# Altium integrated library HyTechDevices.Library.IntLib: 384 symbols (part 2 of 4)
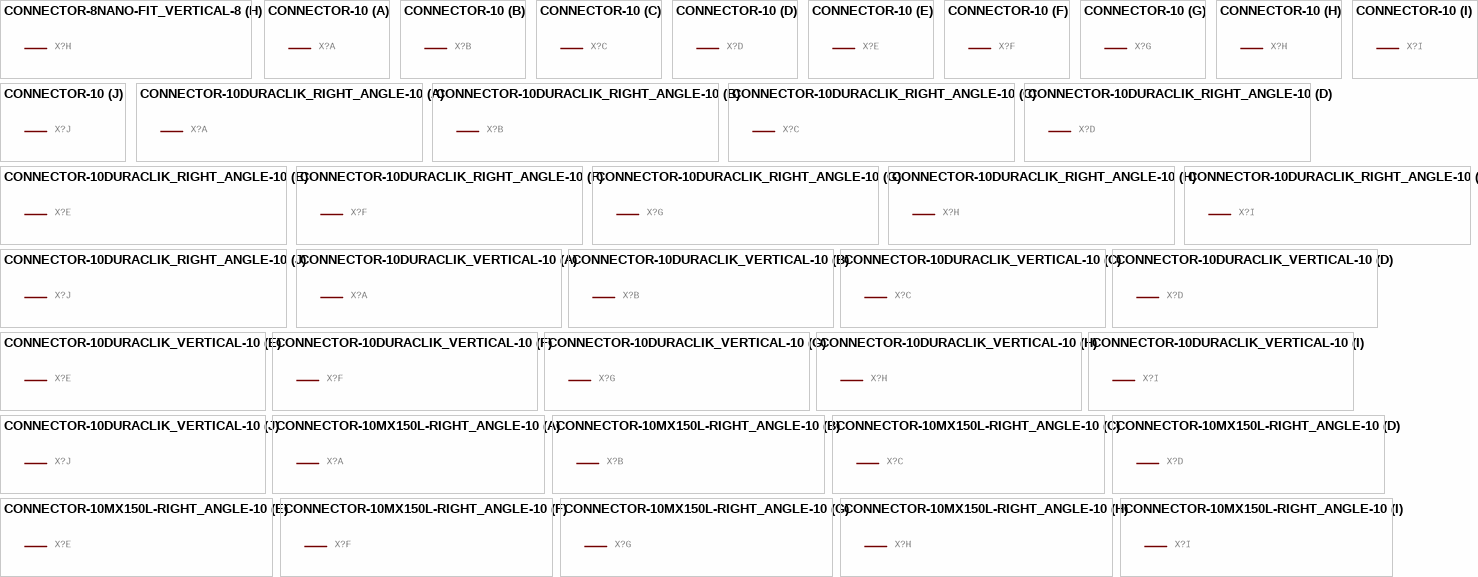
[diagram p22: symbols CONNECTOR-8NANO-FIT_VERTICAL-8 to CONNECTOR-10MX150L-RIGHT_ANGLE-10]

## CONNECTOR-8NANO-FIT_VERTICAL-8
designator X?, comment Mini-Fit Junior connector 8 pole   Source: http://www.molex.com  (value not drawn)
GateName_1: -1; SymbolName_1: MV; GateName_2: -2; SymbolName_2: M; GateName_3: -3; GateName_4: -4; GateName_5: -5; GateName_6: -6; GateName_7: -7; GateName_8: -8; DeviceName: NANO-FIT_VERTICAL-8; DeviceSetName: CONNECTOR-8; SymbolName_3: M; SymbolName_4: M; SymbolName_5: M; SymbolName_6: M; SymbolName_7: M; SymbolName_8: M; LibraryName: HyTechDevices; Package: NANO-FIT_VERTICAL-8
footprint NANO-FIT_VERTICAL-8
part A pins: P$1 S
part B pins: P$2 S
part C pins: P$3 S
part D pins: P$4 S
part E pins: P$5 S
part F pins: P$6 S
part G pins: P$7 S
part H pins: P$8 S

## CONNECTOR-10
designator X?, comment Mini-Fit Junior connector 10 pole   Source: http://www.molex.com  (value not drawn)
GateName_1: -1; SymbolName_1: MV; GateName_2: -2; SymbolName_2: M; GateName_3: -3; GateName_4: -4; GateName_5: -5; GateName_6: -6; GateName_7: -7; GateName_8: -8; GateName_9: -9; GateName_10: -10; DeviceSetName: CONNECTOR-10; SymbolName_3: M; SymbolName_4: M; SymbolName_5: M; SymbolName_6: M; SymbolName_7: M; SymbolName_8: M; SymbolName_9: M; SymbolName_10: M; LibraryName: HyTechDevices; Package: MINIFIT_5566-10; OC_FARNELL: unknown; OC_NEWARK: unknown
footprint MINIFIT_5566-10
part A pins: 1 S
part B pins: 2 S
part C pins: 3 S
part D pins: 4 S
part E pins: 5 S
part F pins: 6 S
part G pins: 7 S
part H pins: 8 S
part I pins: 9 S
part J pins: 10 S

## CONNECTOR-10DURACLIK_RIGHT_ANGLE-10
designator X?, comment Mini-Fit Junior connector 10 pole   Source: http://www.molex.com  (value not drawn)
GateName_1: -1; SymbolName_1: MV; GateName_2: -2; SymbolName_2: M; GateName_3: -3; GateName_4: -4; GateName_5: -5; GateName_6: -6; GateName_7: -7; GateName_8: -8; GateName_9: -9; GateName_10: -10; DeviceName: DURACLIK_RIGHT_ANGLE-10; DeviceSetName: CONNECTOR-10; SymbolName_3: M; SymbolName_4: M; SymbolName_5: M; SymbolName_6: M; SymbolName_7: M; SymbolName_8: M; SymbolName_9: M; SymbolName_10: M; LibraryName: HyTechDevices; Package: DURACLIK_RIGHT_ANGLE-10
footprint DURACLIK_RIGHT_ANGLE-10
part A pins: 1 S
part B pins: 2 S
part C pins: 3 S
part D pins: 4 S
part E pins: 5 S
part F pins: 6 S
part G pins: 7 S
part H pins: 8 S
part I pins: 9 S
part J pins: 10 S

## CONNECTOR-10DURACLIK_VERTICAL-10
designator X?, comment Mini-Fit Junior connector 10 pole   Source: http://www.molex.com  (value not drawn)
GateName_1: -1; SymbolName_1: MV; GateName_2: -2; SymbolName_2: M; GateName_3: -3; GateName_4: -4; GateName_5: -5; GateName_6: -6; GateName_7: -7; GateName_8: -8; GateName_9: -9; GateName_10: -10; DeviceName: DURACLIK_VERTICAL-10; DeviceSetName: CONNECTOR-10; SymbolName_3: M; SymbolName_4: M; SymbolName_5: M; SymbolName_6: M; SymbolName_7: M; SymbolName_8: M; SymbolName_9: M; SymbolName_10: M; LibraryName: HyTechDevices; Package: DURACLIK_VERTICAL-10
footprint DURACLIK_VERTICAL-10
part A pins: 1 S
part B pins: 2 S
part C pins: 3 S
part D pins: 4 S
part E pins: 5 S
part F pins: 6 S
part G pins: 7 S
part H pins: 8 S
part I pins: 9 S
part J pins: 10 S

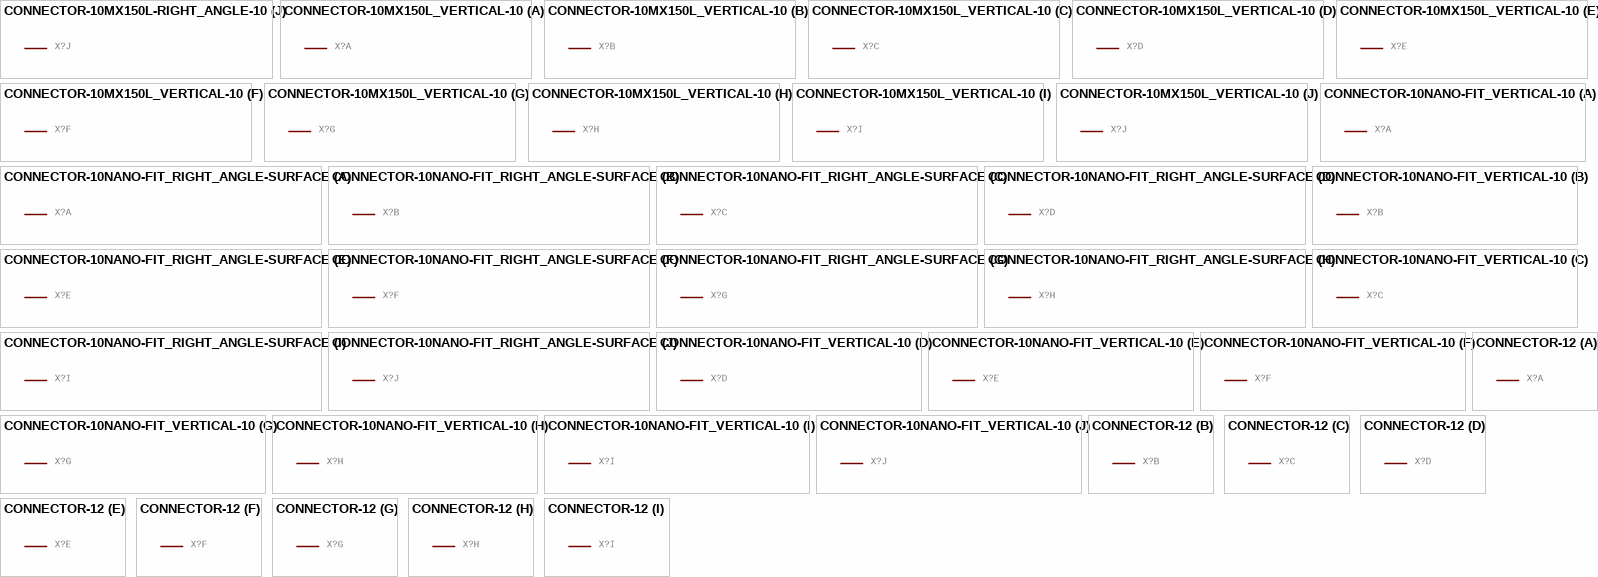
[diagram p9: symbols CONNECTOR-10MX150L-RIGHT_ANGLE-10 to CONNECTOR-12]

## CONNECTOR-10MX150L-RIGHT_ANGLE-10
designator X?, comment Mini-Fit Junior connector 10 pole   Source: http://www.molex.com  (value not drawn)
GateName_1: -1; SymbolName_1: MV; GateName_2: -2; SymbolName_2: M; GateName_3: -3; GateName_4: -4; GateName_5: -5; GateName_6: -6; GateName_7: -7; GateName_8: -8; GateName_9: -9; GateName_10: -10; DeviceName: MX150L-RIGHT_ANGLE-10; DeviceSetName: CONNECTOR-10; SymbolName_3: M; SymbolName_4: M; SymbolName_5: M; SymbolName_6: M; SymbolName_7: M; SymbolName_8: M; SymbolName_9: M; SymbolName_10: M; LibraryName: HyTechDevices; Package: MX150L_RIGHT_ANGLE-10
footprint MX150L_RIGHT_ANGLE-10
part A pins: 1 S
part B pins: 2 S
part C pins: 3 S
part D pins: 4 S
part E pins: 5 S
part F pins: 6 S
part G pins: 7 S
part H pins: 8 S
part I pins: 9 S
part J pins: 10 S

## CONNECTOR-10MX150L_VERTICAL-10
designator X?, comment Mini-Fit Junior connector 10 pole   Source: http://www.molex.com  (value not drawn)
GateName_1: -1; SymbolName_1: MV; GateName_2: -2; SymbolName_2: M; GateName_3: -3; GateName_4: -4; GateName_5: -5; GateName_6: -6; GateName_7: -7; GateName_8: -8; GateName_9: -9; GateName_10: -10; DeviceName: MX150L_VERTICAL-10; DeviceSetName: CONNECTOR-10; SymbolName_3: M; SymbolName_4: M; SymbolName_5: M; SymbolName_6: M; SymbolName_7: M; SymbolName_8: M; SymbolName_9: M; SymbolName_10: M; LibraryName: HyTechDevices; Package: MX150L_VERTICAL-10
footprint MX150L_VERTICAL-10
part A pins: 1 S
part B pins: 2 S
part C pins: 3 S
part D pins: 4 S
part E pins: 5 S
part F pins: 6 S
part G pins: 7 S
part H pins: 8 S
part I pins: 9 S
part J pins: 10 S

## CONNECTOR-10NANO-FIT_RIGHT_ANGLE-SURFACE
designator X?, comment Mini-Fit Junior connector 10 pole   Source: http://www.molex.com  (value not drawn)
GateName_1: -1; SymbolName_1: MV; GateName_2: -2; SymbolName_2: M; GateName_3: -3; GateName_4: -4; GateName_5: -5; GateName_6: -6; GateName_7: -7; GateName_8: -8; GateName_9: -9; GateName_10: -10; DeviceName: NANO-FIT_RIGHT_ANGLE-SURFACE; DeviceSetName: CONNECTOR-10; SymbolName_3: M; SymbolName_4: M; SymbolName_5: M; SymbolName_6: M; SymbolName_7: M; SymbolName_8: M; SymbolName_9: M; SymbolName_10: M; LibraryName: HyTechDevices; Package: NANO-FIT_RIGHT_ANGLE-10-SURFACE
footprint NANO-FIT_RIGHT_ANGLE-10-SURFACE
part A pins: 1 S
part B pins: 2 S
part C pins: 3 S
part D pins: 4 S
part E pins: 5 S
part F pins: 6 S
part G pins: 7 S
part H pins: 8 S
part I pins: 9 S
part J pins: 10 S

## CONNECTOR-10NANO-FIT_VERTICAL-10
designator X?, comment Mini-Fit Junior connector 10 pole   Source: http://www.molex.com  (value not drawn)
GateName_1: -1; SymbolName_1: MV; GateName_2: -2; SymbolName_2: M; GateName_3: -3; GateName_4: -4; GateName_5: -5; GateName_6: -6; GateName_7: -7; GateName_8: -8; GateName_9: -9; GateName_10: -10; DeviceName: NANO-FIT_VERTICAL-10; DeviceSetName: CONNECTOR-10; SymbolName_3: M; SymbolName_4: M; SymbolName_5: M; SymbolName_6: M; SymbolName_7: M; SymbolName_8: M; SymbolName_9: M; SymbolName_10: M; LibraryName: HyTechDevices; Package: NANO-FIT_VERTICAL-10
footprint NANO-FIT_VERTICAL-10
part A pins: P$1 S
part B pins: P$2 S
part C pins: P$3 S
part D pins: P$4 S
part E pins: P$5 S
part F pins: P$6 S
part G pins: P$7 S
part H pins: P$8 S
part I pins: P$9 S
part J pins: P$10 S

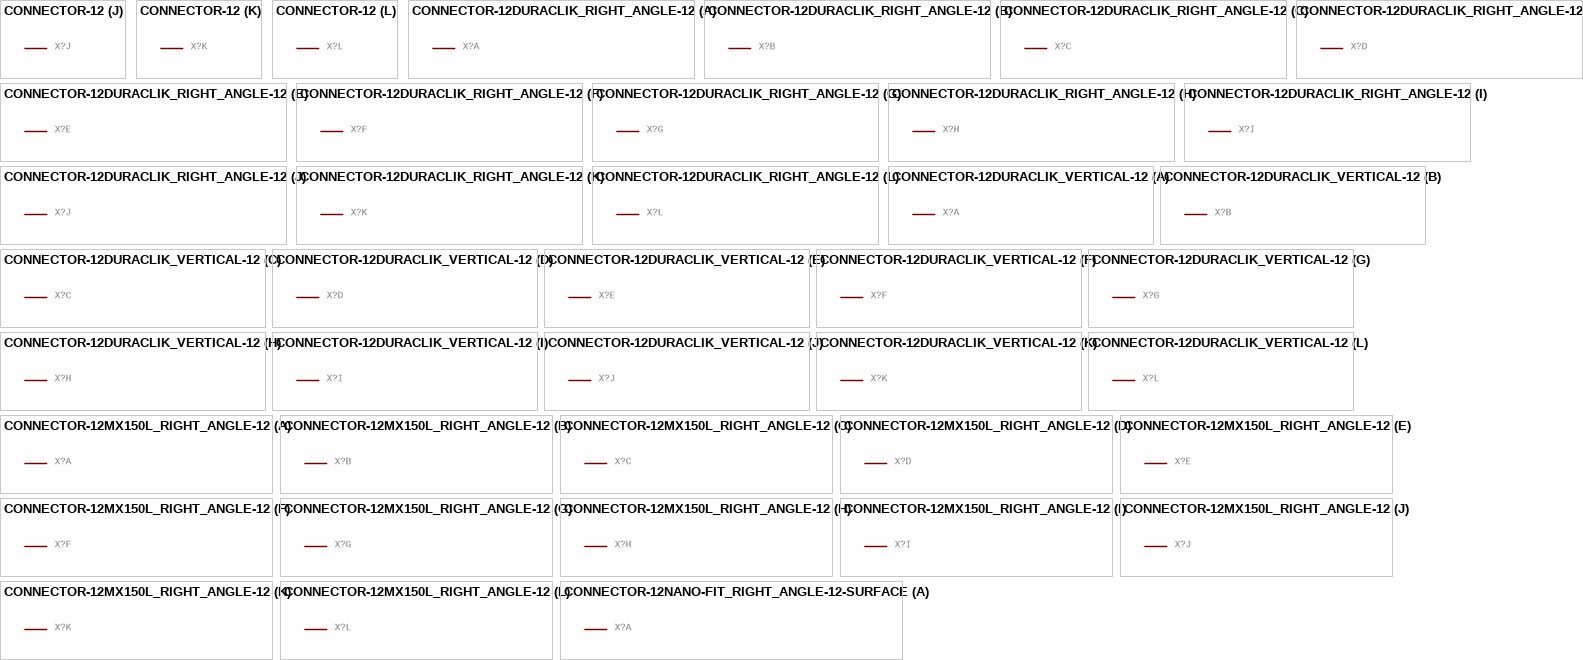
[diagram p10: symbols CONNECTOR-12 to CONNECTOR-12NANO-FIT_RIGHT_ANGLE-12-SURFACE]

## CONNECTOR-12
designator X?, comment Mini-Fit Junior connector 12 pole   Source: http://www.molex.com  (value not drawn)
GateName_1: -1; SymbolName_1: MV; GateName_2: -2; SymbolName_2: M; GateName_3: -3; GateName_4: -4; GateName_5: -5; GateName_6: -6; GateName_7: -7; GateName_8: -8; GateName_9: -9; GateName_10: -10; GateName_11: -11; GateName_12: -12; DeviceSetName: CONNECTOR-12; SymbolName_3: M; SymbolName_4: M; SymbolName_5: M; SymbolName_6: M; SymbolName_7: M; SymbolName_8: M; SymbolName_9: M; SymbolName_10: M; SymbolName_11: M; SymbolName_12: M; LibraryName: HyTechDevices; Package: MINIFIT_5566-12; OC_FARNELL: unknown; OC_NEWARK: unknown
footprint MINIFIT_5566-12
part A pins: 1 S
part B pins: 2 S
part C pins: 3 S
part D pins: 4 S
part E pins: 5 S
part F pins: 6 S
part G pins: 7 S
part H pins: 8 S
part I pins: 9 S
part J pins: 10 S
part K pins: 11 S
part L pins: 12 S

## CONNECTOR-12DURACLIK_RIGHT_ANGLE-12
designator X?, comment Mini-Fit Junior connector 12 pole   Source: http://www.molex.com  (value not drawn)
GateName_1: -1; SymbolName_1: MV; GateName_2: -2; SymbolName_2: M; GateName_3: -3; GateName_4: -4; GateName_5: -5; GateName_6: -6; GateName_7: -7; GateName_8: -8; GateName_9: -9; GateName_10: -10; GateName_11: -11; GateName_12: -12; DeviceName: DURACLIK_RIGHT_ANGLE-12; DeviceSetName: CONNECTOR-12; SymbolName_3: M; SymbolName_4: M; SymbolName_5: M; SymbolName_6: M; SymbolName_7: M; SymbolName_8: M; SymbolName_9: M; SymbolName_10: M; SymbolName_11: M; SymbolName_12: M; LibraryName: HyTechDevices; Package: DURACLIK_RIGHT_ANGLE-12
footprint DURACLIK_RIGHT_ANGLE-12
part A pins: 1 S
part B pins: 2 S
part C pins: 3 S
part D pins: 4 S
part E pins: 5 S
part F pins: 6 S
part G pins: 7 S
part H pins: 8 S
part I pins: 9 S
part J pins: 10 S
part K pins: 11 S
part L pins: 12 S

## CONNECTOR-12DURACLIK_VERTICAL-12
designator X?, comment Mini-Fit Junior connector 12 pole   Source: http://www.molex.com  (value not drawn)
GateName_1: -1; SymbolName_1: MV; GateName_2: -2; SymbolName_2: M; GateName_3: -3; GateName_4: -4; GateName_5: -5; GateName_6: -6; GateName_7: -7; GateName_8: -8; GateName_9: -9; GateName_10: -10; GateName_11: -11; GateName_12: -12; DeviceName: DURACLIK_VERTICAL-12; DeviceSetName: CONNECTOR-12; SymbolName_3: M; SymbolName_4: M; SymbolName_5: M; SymbolName_6: M; SymbolName_7: M; SymbolName_8: M; SymbolName_9: M; SymbolName_10: M; SymbolName_11: M; SymbolName_12: M; LibraryName: HyTechDevices; Package: DURACLIK_VERTICAL-12
footprint DURACLIK_VERTICAL-12
part A pins: 1 S
part B pins: 2 S
part C pins: 3 S
part D pins: 4 S
part E pins: 5 S
part F pins: 6 S
part G pins: 7 S
part H pins: 8 S
part I pins: 9 S
part J pins: 10 S
part K pins: 11 S
part L pins: 12 S

## CONNECTOR-12MX150L_RIGHT_ANGLE-12
designator X?, comment Mini-Fit Junior connector 12 pole   Source: http://www.molex.com  (value not drawn)
GateName_1: -1; SymbolName_1: MV; GateName_2: -2; SymbolName_2: M; GateName_3: -3; GateName_4: -4; GateName_5: -5; GateName_6: -6; GateName_7: -7; GateName_8: -8; GateName_9: -9; GateName_10: -10; GateName_11: -11; GateName_12: -12; DeviceName: MX150L_RIGHT_ANGLE-12; DeviceSetName: CONNECTOR-12; SymbolName_3: M; SymbolName_4: M; SymbolName_5: M; SymbolName_6: M; SymbolName_7: M; SymbolName_8: M; SymbolName_9: M; SymbolName_10: M; SymbolName_11: M; SymbolName_12: M; LibraryName: HyTechDevices; Package: MX150L_RIGHT_ANGLE-12
footprint MX150L_RIGHT_ANGLE-12
part A pins: 1 S
part B pins: 2 S
part C pins: 3 S
part D pins: 4 S
part E pins: 5 S
part F pins: 6 S
part G pins: 7 S
part H pins: 8 S
part I pins: 9 S
part J pins: 10 S
part K pins: 11 S
part L pins: 12 S

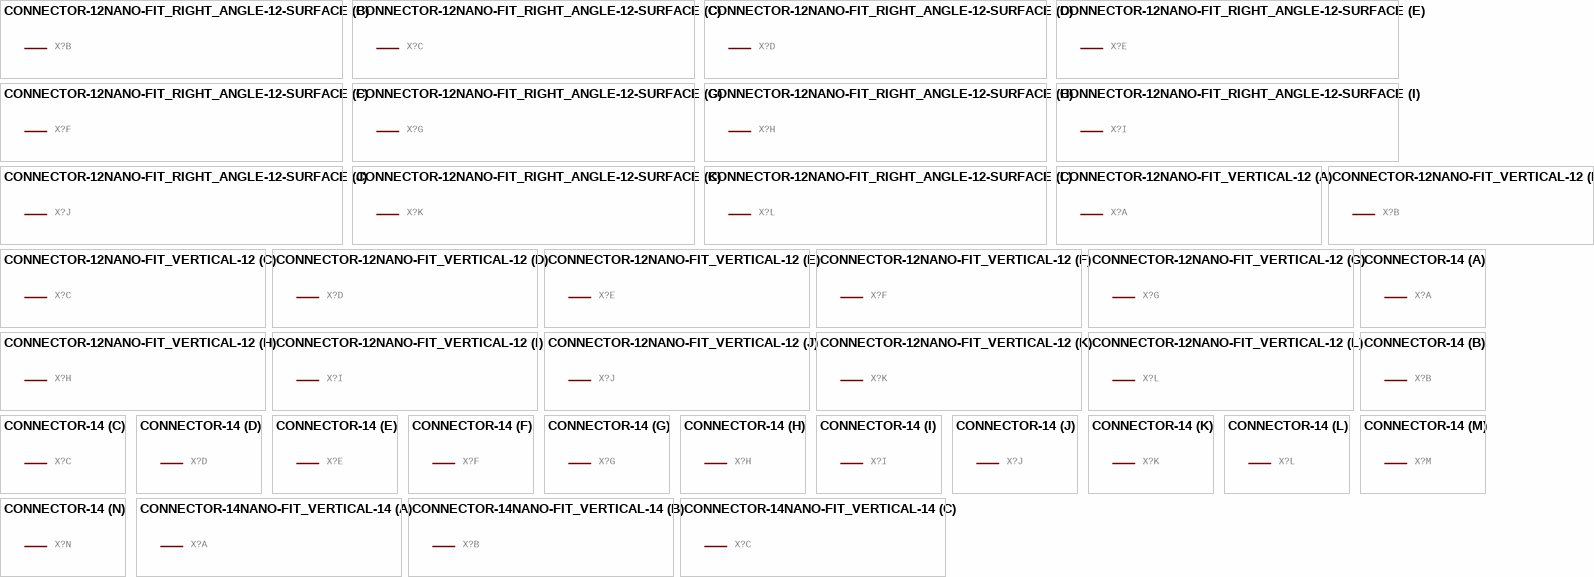
[diagram p11: symbols CONNECTOR-12NANO-FIT_RIGHT_ANGLE-12-SURFACE to CONNECTOR-14NANO-FIT_VERTICAL-14]

## CONNECTOR-12NANO-FIT_RIGHT_ANGLE-12-SURFACE
designator X?, comment Mini-Fit Junior connector 12 pole   Source: http://www.molex.com  (value not drawn)
GateName_1: -1; SymbolName_1: MV; GateName_2: -2; SymbolName_2: M; GateName_3: -3; GateName_4: -4; GateName_5: -5; GateName_6: -6; GateName_7: -7; GateName_8: -8; GateName_9: -9; GateName_10: -10; GateName_11: -11; GateName_12: -12; DeviceName: NANO-FIT_RIGHT_ANGLE-12-SURFACE; DeviceSetName: CONNECTOR-12; SymbolName_3: M; SymbolName_4: M; SymbolName_5: M; SymbolName_6: M; SymbolName_7: M; SymbolName_8: M; SymbolName_9: M; SymbolName_10: M; SymbolName_11: M; SymbolName_12: M; LibraryName: HyTechDevices; Package: NANO-FIT_RIGHT_ANGLE-12-SURFACE
footprint NANO-FIT_RIGHT_ANGLE-12-SURFACE
part A pins: 1 S
part B pins: 2 S
part C pins: 3 S
part D pins: 4 S
part E pins: 5 S
part F pins: 6 S
part G pins: 7 S
part H pins: 8 S
part I pins: 9 S
part J pins: 10 S
part K pins: 11 S
part L pins: 12 S

## CONNECTOR-12NANO-FIT_VERTICAL-12
designator X?, comment Mini-Fit Junior connector 12 pole   Source: http://www.molex.com  (value not drawn)
GateName_1: -1; SymbolName_1: MV; GateName_2: -2; SymbolName_2: M; GateName_3: -3; GateName_4: -4; GateName_5: -5; GateName_6: -6; GateName_7: -7; GateName_8: -8; GateName_9: -9; GateName_10: -10; GateName_11: -11; GateName_12: -12; DeviceName: NANO-FIT_VERTICAL-12; DeviceSetName: CONNECTOR-12; SymbolName_3: M; SymbolName_4: M; SymbolName_5: M; SymbolName_6: M; SymbolName_7: M; SymbolName_8: M; SymbolName_9: M; SymbolName_10: M; SymbolName_11: M; SymbolName_12: M; LibraryName: HyTechDevices; Package: NANO-FIT_VERTICAL-12
footprint NANO-FIT_VERTICAL-12
part A pins: P$1 S
part B pins: P$2 S
part C pins: P$3 S
part D pins: P$4 S
part E pins: P$5 S
part F pins: P$6 S
part G pins: P$7 S
part H pins: P$8 S
part I pins: P$9 S
part J pins: P$10 S
part K pins: P$11 S
part L pins: P$12 S

## CONNECTOR-14
designator X?, comment Mini-Fit Junior connector 14 pole   Source: http://www.molex.com  (value not drawn)
GateName_1: -1; SymbolName_1: MV; GateName_2: -2; SymbolName_2: M; GateName_3: -3; GateName_4: -4; GateName_5: -5; GateName_6: -6; GateName_7: -7; GateName_8: -8; GateName_9: -9; GateName_10: -10; GateName_11: -11; GateName_12: -12; GateName_13: -13; GateName_14: -14; DeviceSetName: CONNECTOR-14; SymbolName_3: M; SymbolName_4: M; SymbolName_5: M; SymbolName_6: M; SymbolName_7: M; SymbolName_8: M; SymbolName_9: M; SymbolName_10: M; SymbolName_11: M; SymbolName_12: M; SymbolName_13: M; SymbolName_14: M; LibraryName: HyTechDevices; Package: MINIFIT_5566-14
footprint MINIFIT_5566-14
part A pins: 1 S
part B pins: 2 S
part C pins: 3 S
part D pins: 4 S
part E pins: 5 S
part F pins: 6 S
part G pins: 7 S
part H pins: 8 S
part I pins: 9 S
part J pins: 10 S
part K pins: 11 S
part L pins: 12 S
part M pins: 13 S
part N pins: 14 S

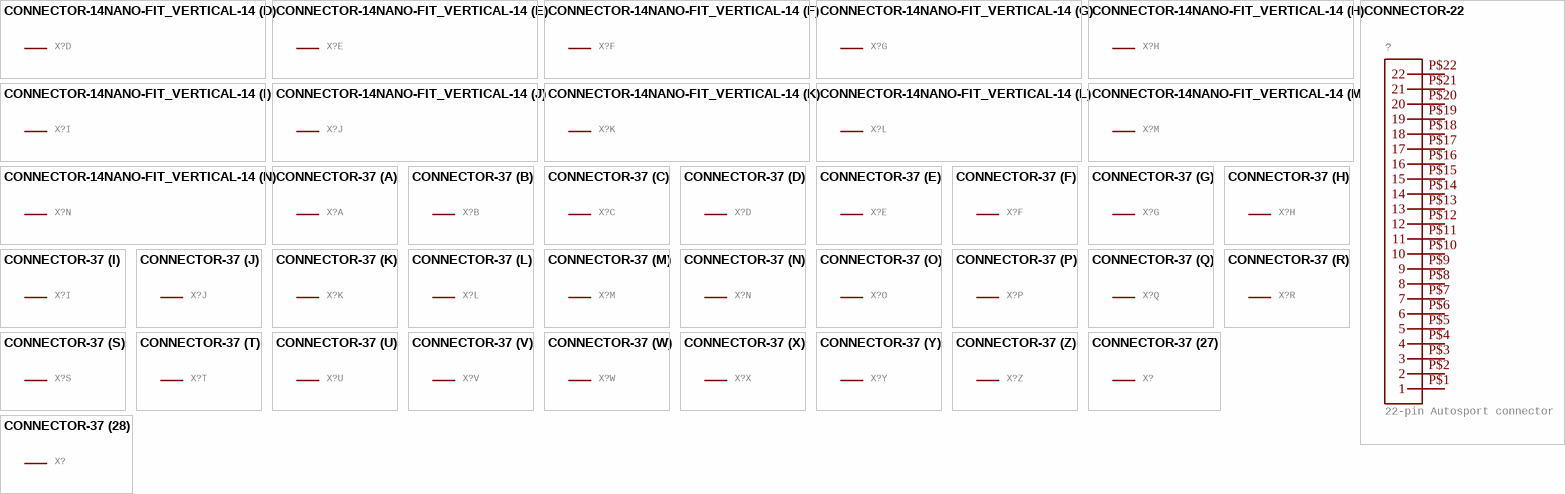
[diagram p12: symbols CONNECTOR-14NANO-FIT_VERTICAL-14 to CONNECTOR-37]

## CONNECTOR-14NANO-FIT_VERTICAL-14
designator X?, comment Mini-Fit Junior connector 14 pole   Source: http://www.molex.com  (value not drawn)
GateName_1: -1; SymbolName_1: MV; GateName_2: -2; SymbolName_2: M; GateName_3: -3; GateName_4: -4; GateName_5: -5; GateName_6: -6; GateName_7: -7; GateName_8: -8; GateName_9: -9; GateName_10: -10; GateName_11: -11; GateName_12: -12; GateName_13: -13; GateName_14: -14; DeviceName: NANO-FIT_VERTICAL-14; DeviceSetName: CONNECTOR-14; SymbolName_3: M; SymbolName_4: M; SymbolName_5: M; SymbolName_6: M; SymbolName_7: M; SymbolName_8: M; SymbolName_9: M; SymbolName_10: M; SymbolName_11: M; SymbolName_12: M; SymbolName_13: M; SymbolName_14: M; LibraryName: HyTechDevices; Package: NANO-FIT_VERTICAL-14
footprint NANO-FIT_VERTICAL-14
part A pins: P$1 S
part B pins: P$2 S
part C pins: P$3 S
part D pins: P$4 S
part E pins: P$5 S
part F pins: P$6 S
part G pins: P$7 S
part H pins: P$8 S
part I pins: P$9 S
part J pins: P$10 S
part K pins: P$11 S
part L pins: P$12 S
part M pins: P$13 S
part N pins: P$14 S

## CONNECTOR-22
designator ?, comment 22-pin Autosport connector
GateName_1: G$1; SymbolName_1: AUTOSPORT22; DeviceSetName: CONNECTOR-22; LibraryName: HyTechDevices; Package: AUTOSPORT_12-35; PINS: 22
footprint AUTOSPORT_12-35
pins: P$1 1, P$2 2, P$3 3, P$4 4, P$5 5, P$6 6, P$7 7, P$8 8, P$9 9, P$10 10, P$11 11, P$12 12, P$13 13, P$14 14, P$15 15, P$16 16, P$17 17, P$18 18, P$19 19, P$20 20, P$21 21, P$22 22

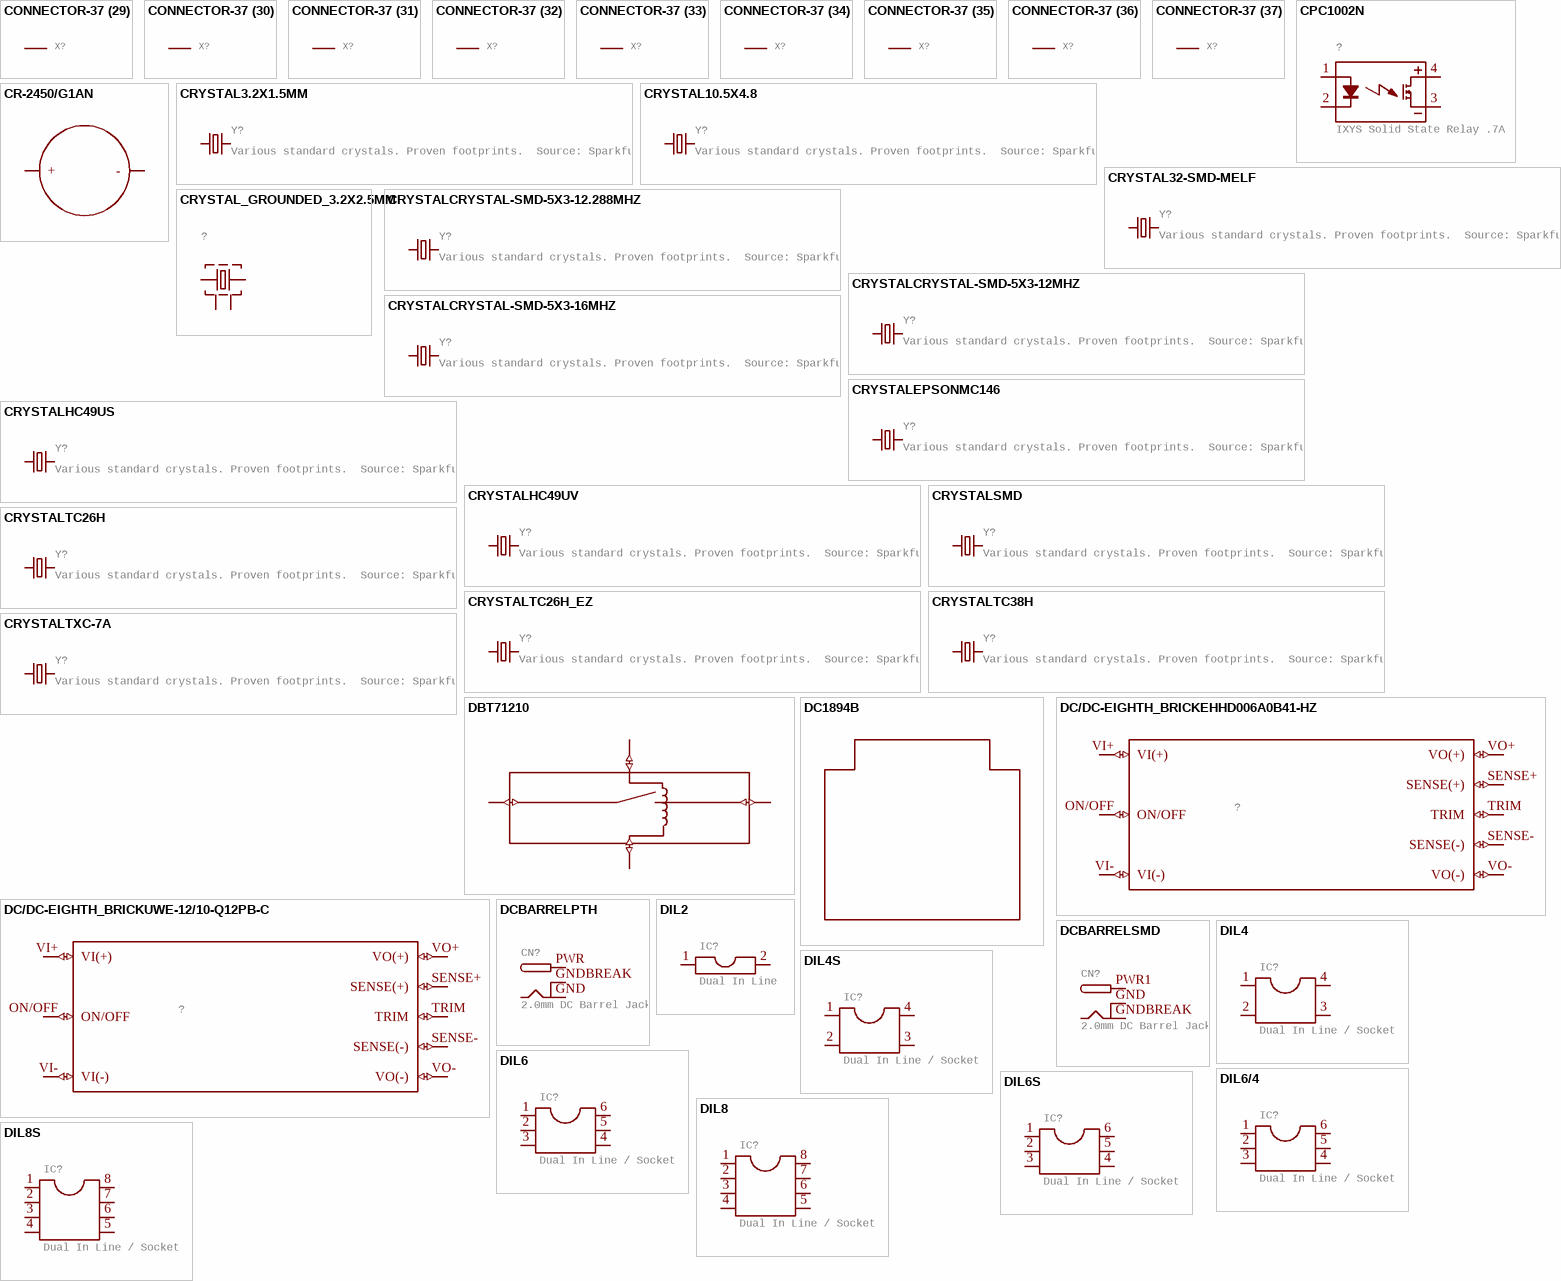
[diagram p13: symbols CONNECTOR-37 to DIL8S]

## CONNECTOR-37
designator X?, comment Mini-Fit Junior connector 12 pole   Source: http://www.molex.com  (value not drawn)
GateName_1: -1; SymbolName_1: MV; GateName_2: -2; SymbolName_2: M; GateName_3: -3; GateName_4: -4; GateName_5: -5; GateName_6: -6; GateName_7: -7; GateName_8: -8; GateName_9: -9; GateName_10: -10; GateName_11: -11; GateName_12: -12; GateName_13: -13; GateName_14: -14; GateName_15: -15; GateName_16: -16; GateName_17: -17; GateName_18: -18; GateName_19: -19; GateName_20: -20; GateName_21: -21; GateName_22: -22; GateName_23: -23; GateName_24: -24; GateName_25: -25; GateName_26: -26; GateName_27: -27; GateName_28: -28; GateName_29: -29; GateName_30: -30; GateName_31: -31; GateName_32: -32; GateName_33: -33; GateName_34: -34; GateName_35: -35; GateName_36: -36; GateName_37: -37; DeviceSetName: CONNECTOR-37; SymbolName_3: M; SymbolName_4: M; SymbolName_5: M; SymbolName_6: M; SymbolName_7: M; SymbolName_8: M; SymbolName_9: M; SymbolName_10: M; SymbolName_11: M; SymbolName_12: M; SymbolName_13: M; SymbolName_14: M; SymbolName_15: M; SymbolName_16: M; SymbolName_17: M; SymbolName_18: M; SymbolName_19: M; SymbolName_20: M; SymbolName_21: M; SymbolName_22: M; SymbolName_23: M; SymbolName_24: M; SymbolName_25: M; SymbolName_26: M; SymbolName_27: M; SymbolName_28: M; SymbolName_29: M; SymbolName_30: M; SymbolName_31: M; SymbolName_32: M; SymbolName_33: M; SymbolName_34: M; SymbolName_35: M; SymbolName_36: M; SymbolName_37: M; LibraryName: HyTechDevices; Package: AUTOSPORT_14-35
footprint AUTOSPORT_14-35
part A pins: P$1 S
part B pins: P$2 S
part C pins: P$3 S
part D pins: P$4 S
part E pins: P$5 S
part F pins: P$6 S
part G pins: P$7 S
part H pins: P$8 S
part I pins: P$9 S
part J pins: P$10 S
part K pins: P$11 S
part L pins: P$12 S
part M pins: P$13 S
part N pins: P$14 S
part O pins: P$15 S
part P pins: P$16 S
part Q pins: P$17 S
part R pins: P$18 S
part S pins: P$19 S
part T pins: P$20 S
part U pins: P$21 S
part V pins: P$22 S
part W pins: P$23 S
part X pins: P$24 S
part Y pins: P$25 S
part Z pins: P$26 S
part 27 pins: P$27 S
part 28 pins: P$28 S
part 29 pins: P$29 S
part 30 pins: P$30 S
part 31 pins: P$31 S
part 32 pins: P$32 S
part 33 pins: P$33 S
part 34 pins: P$34 S
part 35 pins: P$35 S
part 36 pins: P$36 S
part 37 pins: P$37 S

## CPC1002N
designator ?, comment IXYS Solid State Relay .7A
GateName_1: G$1; SymbolName_1: CPC1002N; LibraryName: HyTechDevices; DeviceSetName: CPC1002N; Package: SOP04
footprint SOP04
pins: 1 CONTROL+, 2 CONTROL-, 3 DC-, 4 DC+

## CR-2450/G1AN
designator ?, comment Panasonic CR2450 Battery through hole.  (value not drawn)
GateName_1: G$1; SymbolName_1: CR-2450/G1AN; LibraryName: HyTechDevices; DeviceSetName: CR-2450/G1AN; Package: CR-2450/G1AN
footprint CR-2450/G1AN
pins: +_0 +_1 + (io), - (io)

## CRYSTAL3.2X1.5MM
designator Y?, comment Various standard crystals. Proven footprints.  Source: Sparkfun
GateName_1: G$1; SymbolName_1: Q; DeviceName: 3.2X1.5MM; PROD_ID: XTAL-13062; LibraryName: HyTechDevices; DeviceSetName: CRYSTAL; Package: CRYSTAL-SMD-3.2X1.5MM
footprint CRYSTAL-SMD-3.2X1.5MM
pins: P$1 1, P$2 2

## CRYSTAL10.5X4.8
designator Y?, comment Various standard crystals. Proven footprints.  Source: Sparkfun
GateName_1: G$1; SymbolName_1: Q; DeviceName: 10.5X4.8; LibraryName: HyTechDevices; DeviceSetName: CRYSTAL; Package: CRYSTAL-SMD-10.5X4.8-2PIN
footprint CRYSTAL-SMD-10.5X4.8-2PIN
pins: P$1 1, P$2 2

## CRYSTAL32-SMD-MELF
designator Y?, comment Various standard crystals. Proven footprints.  Source: Sparkfun
GateName_1: G$1; SymbolName_1: Q; DeviceName: 32-SMD-MELF; PROD_ID: XTAL-07894; LibraryName: HyTechDevices; DeviceSetName: CRYSTAL; Package: CRYSTAL-32KHZ-SMD-MELF
footprint CRYSTAL-32KHZ-SMD-MELF
pins: X1 1, X2 2

## CRYSTAL_GROUNDED_3.2X2.5MM
designator ?
GateName_1: G$1; SymbolName_1: Q-SHIELD2; DeviceName: _3.2X2.5MM; DeviceSetName: CRYSTAL_GROUNDED; LibraryName: HyTechDevices; Package: CRYSTAL_3.2X2.5MM
footprint CRYSTAL_3.2X2.5MM
pins: P$1 1, P$2 2, P$3 3, P$4 4

## CRYSTALCRYSTAL-SMD-5X3-12.288MHZ
designator Y?, comment Various standard crystals. Proven footprints.  Source: Sparkfun
GateName_1: G$1; SymbolName_1: Q; DeviceName: CRYSTAL-SMD-5X3-12.288MHZ; PROD_ID: XTAL-09653; LibraryName: HyTechDevices; DeviceSetName: CRYSTAL; Package: CRYSTAL-SMD-5X3
footprint CRYSTAL-SMD-5X3
pins: 1, 3 2

## CRYSTALCRYSTAL-SMD-5X3-12MHZ
designator Y?, comment Various standard crystals. Proven footprints.  Source: Sparkfun
GateName_1: G$1; SymbolName_1: Q; DeviceName: CRYSTAL-SMD-5X3-12MHZ; PROD_ID: XTAL-08297; LibraryName: HyTechDevices; DeviceSetName: CRYSTAL; Package: CRYSTAL-SMD-5X3
footprint CRYSTAL-SMD-5X3
pins: 1, 3 2

## CRYSTALCRYSTAL-SMD-5X3-16MHZ
designator Y?, comment Various standard crystals. Proven footprints.  Source: Sparkfun
GateName_1: G$1; SymbolName_1: Q; DeviceName: CRYSTAL-SMD-5X3-16MHZ; PROD_ID: XTAL-08218; LibraryName: HyTechDevices; DeviceSetName: CRYSTAL; Package: CRYSTAL-SMD-5X3
footprint CRYSTAL-SMD-5X3
pins: 1, 3 2

## CRYSTALEPSONMC146
designator Y?, comment Various standard crystals. Proven footprints.  Source: Sparkfun
GateName_1: G$1; SymbolName_1: Q; DeviceName: EPSONMC146; LibraryName: HyTechDevices; DeviceSetName: CRYSTAL; Package: CRYSTAL-32KHZ-SMD_EPSON_MC146
footprint CRYSTAL-32KHZ-SMD_EPSON_MC146
pins: P$1 2, P$2 1

## CRYSTALHC49US
designator Y?, comment Various standard crystals. Proven footprints.  Source: Sparkfun
GateName_1: G$1; SymbolName_1: Q; DeviceName: HC49US; LibraryName: HyTechDevices; DeviceSetName: CRYSTAL; Package: HC49US
footprint HC49US
pins: 1, 2

## CRYSTALHC49UV
designator Y?, comment Various standard crystals. Proven footprints.  Source: Sparkfun
GateName_1: G$1; SymbolName_1: Q; DeviceName: HC49UV; LibraryName: HyTechDevices; DeviceSetName: CRYSTAL; Package: HC49U-V
footprint HC49U-V
pins: 1, 2

## CRYSTALSMD
designator Y?, comment Various standard crystals. Proven footprints.  Source: Sparkfun
GateName_1: G$1; SymbolName_1: Q; DeviceName: SMD; LibraryName: HyTechDevices; DeviceSetName: CRYSTAL; Package: HC49UP
footprint HC49UP
pins: 1, 2

## CRYSTALTC26H
designator Y?, comment Various standard crystals. Proven footprints.  Source: Sparkfun
GateName_1: G$1; SymbolName_1: Q; DeviceName: TC26H; PROD_ID: XTAL-10112; LibraryName: HyTechDevices; DeviceSetName: CRYSTAL; Package: TC26H
footprint TC26H
pins: 1, 2

## CRYSTALTC26H_EZ
designator Y?, comment Various standard crystals. Proven footprints.  Source: Sparkfun
GateName_1: G$1; SymbolName_1: Q; DeviceName: TC26H_EZ; LibraryName: HyTechDevices; DeviceSetName: CRYSTAL; Package: TC26HEZ
footprint TC26HEZ
pins: 1, 2

## CRYSTALTC38H
designator Y?, comment Various standard crystals. Proven footprints.  Source: Sparkfun
GateName_1: G$1; SymbolName_1: Q; DeviceName: TC38H; LibraryName: HyTechDevices; DeviceSetName: CRYSTAL; Package: TC38H
footprint TC38H
pins: 1, 2

## CRYSTALTXC-7A
designator Y?, comment Various standard crystals. Proven footprints.  Source: Sparkfun
GateName_1: G$1; SymbolName_1: Q; DeviceName: TXC-7A; LibraryName: HyTechDevices; DeviceSetName: CRYSTAL; Package: CRYSTAL-TXC-7A
footprint CRYSTAL-TXC-7A
pins: P$1 1, P$2 2

## DBT71210
designator ?, comment DBT71210 Reed Relay Form B (Standard normally closed), switch 12V  (value not drawn)
GateName_1: G$1; SymbolName_1: DBT71210; LibraryName: HyTechDevices; DeviceSetName: DBT71210; Package: DBT71210
footprint DBT71210
pins: COIL+ (io), COIL- (io), CONTACT1 (io), CONTACT2 (io)

## DC1894B
designator ?, comment Linear Technology Multicell Battery Stack Monitor  Variant 1: Daisy Chained Configuration  Datasheet  (value not drawn)
GateName_1: G$1; SymbolName_1: DC1894B; LibraryName: HyTechDevices; DeviceSetName: DC1894B; Package: DC1894B
footprint DC1894B

## DC/DC-EIGHTH_BRICKEHHD006A0B41-HZ
designator ?, comment Eighth Brick DC/DC  (value not drawn)
GateName_1: G$1; SymbolName_1: DC/DC-EIGHTH_BRICK; DeviceName: EHHD006A0B41-HZ; LibraryName: HyTechDevices; DeviceSetName: DC/DC-EIGHTH_BRICK; Package: DC/DC-EIGHTH_BRICK
footprint DC/DC-EIGHTH_BRICK
pins: ON/OFF (io), SENSE+ SENSE(+) (io), SENSE- SENSE(-) (io), TRIM (io), VI+ VI(+) (io), VI- VI(-) (io), VO+ VO(+) (io), VO- VO(-) (io)

## DC/DC-EIGHTH_BRICKUWE-12/10-Q12PB-C
designator ?, comment Eighth Brick DC/DC  (value not drawn)
GateName_1: G$1; SymbolName_1: DC/DC-EIGHTH_BRICK; DeviceName: UWE-12/10-Q12PB-C; LibraryName: HyTechDevices; DeviceSetName: DC/DC-EIGHTH_BRICK; Package: DC/DC-EIGHTH_BRICK
footprint DC/DC-EIGHTH_BRICK
pins: ON/OFF (io), SENSE+ SENSE(+) (io), SENSE- SENSE(-) (io), TRIM (io), VI+ VI(+) (io), VI- VI(-) (io), VO+ VO(+) (io), VO- VO(-) (io)

## DCBARRELPTH
designator CN?, comment 2.0mm DC Barrel JackDCJACK_2MM_PTH - Through Hole Jack (4UConnector: 05537)  Source: Adafruit
GateName_1: G$1; DeviceName: PTH; SymbolName_1: DCBARREL; LibraryName: HyTechDevices; DeviceSetName: DCBARREL; Package: DCJACK_2MM_PTH
footprint DCJACK_2MM_PTH
pins: GND (power), GNDBREAK (power), PWR (power)

## DCBARRELSMD
designator CN?, comment 2.0mm DC Barrel JackDCJACK_2MM_PTH - Through Hole Jack (4UConnector: 05537)  Source: Adafruit
GateName_1: G$1; DeviceName: SMD; SymbolName_1: DCBARREL; LibraryName: HyTechDevices; DeviceSetName: DCBARREL; Package: DCJACK_2MM_SMT
footprint DCJACK_2MM_SMT
pins: GND GNDBREAK (power), GNDBREAK GND (power), PWR1 PWR (power)

## DIL2
designator IC?, comment Dual In Line
GateName_1: G$1; SymbolName_1: DIL2; LibraryName: HyTechDevices; DeviceSetName: DIL2; Package: DIL02
footprint DIL02
pins: 1, 2

## DIL4
designator IC?, comment Dual In Line / Socket
GateName_1: G$1; SymbolName_1: DIL4; LibraryName: HyTechDevices; DeviceSetName: DIL4; Package: DIL04
footprint DIL04
pins: 1, 2, 3, 4

## DIL4S
designator IC?, comment Dual In Line / Socket
GateName_1: G$1; SymbolName_1: DIL4; DeviceName: S; LibraryName: HyTechDevices; DeviceSetName: DIL4; Package: SOCKET-04
footprint SOCKET-04
pins: 1, 2, 3, 4

## DIL6
designator IC?, comment Dual In Line / Socket
GateName_1: G$1; SymbolName_1: DIL6; LibraryName: HyTechDevices; DeviceSetName: DIL6; Package: DIL06
footprint DIL06
pins: 1, 2, 3, 4, 5, 6

## DIL6/4
designator IC?, comment Dual In Line / Socket
GateName_1: G$1; SymbolName_1: DIL6; DeviceName: /4; LibraryName: HyTechDevices; DeviceSetName: DIL6; Package: DIL06-4
footprint DIL06-4
pins: 1, 2, 3, 4, 5, 6

## DIL6S
designator IC?, comment Dual In Line / Socket
GateName_1: G$1; SymbolName_1: DIL6; DeviceName: S; LibraryName: HyTechDevices; DeviceSetName: DIL6; Package: SOCKET-06
footprint SOCKET-06
pins: 1, 2, 3, 4, 5, 6

## DIL8
designator IC?, comment Dual In Line / Socket
GateName_1: G$1; SymbolName_1: DIL8; LibraryName: HyTechDevices; DeviceSetName: DIL8; Package: DIL08
footprint DIL08
pins: 1, 2, 3, 4, 5, 6, 7, 8

## DIL8S
designator IC?, comment Dual In Line / Socket
GateName_1: G$1; SymbolName_1: DIL8; DeviceName: S; LibraryName: HyTechDevices; DeviceSetName: DIL8; Package: SOCKET-08
footprint SOCKET-08
pins: 1, 2, 3, 4, 5, 6, 7, 8

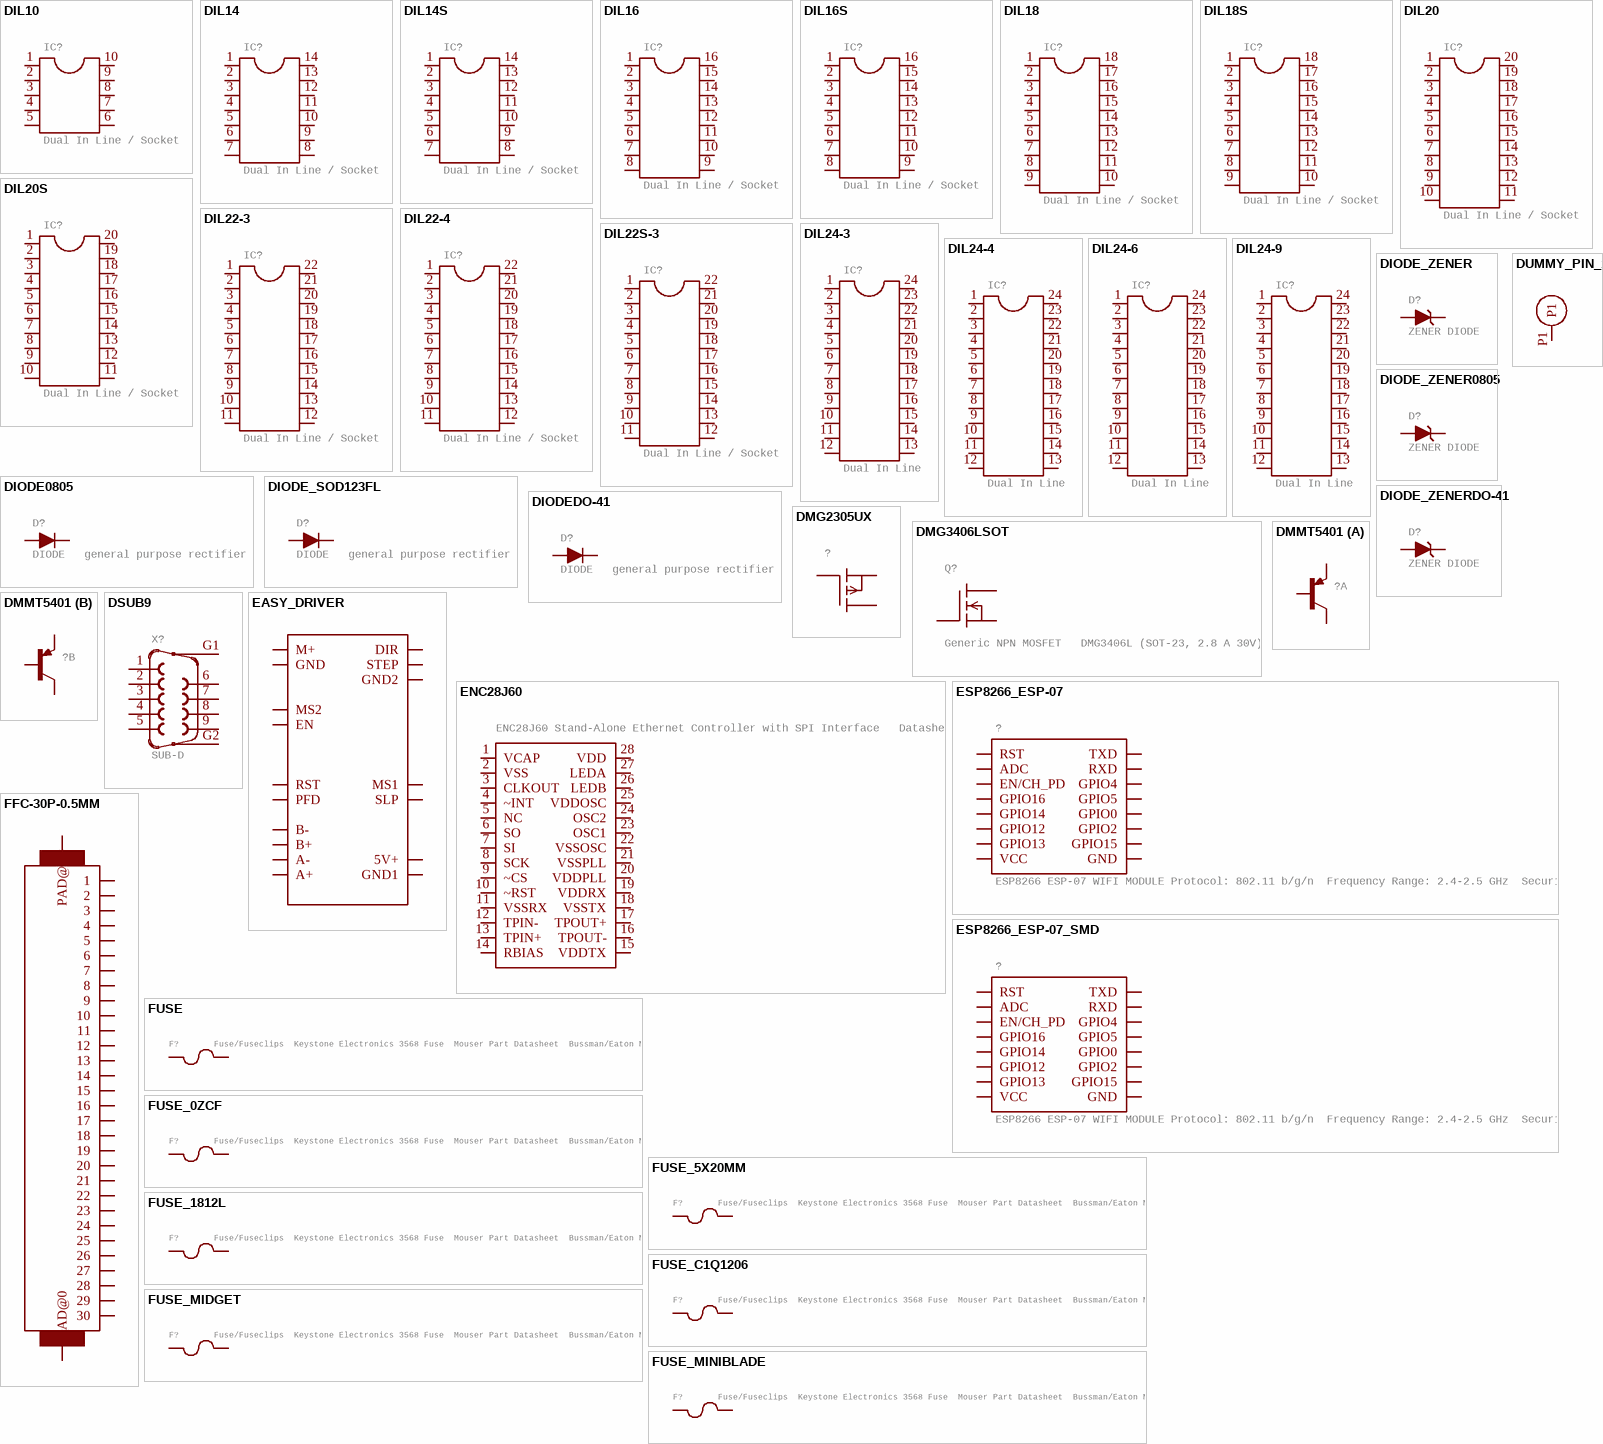
[diagram p14: symbols DIL10 to FUSE_MINIBLADE]

## DIL10
designator IC?, comment Dual In Line / Socket
GateName_1: G$1; SymbolName_1: DIL10; LibraryName: HyTechDevices; DeviceSetName: DIL10; Package: DIL10
footprint DIL10
pins: 1, 2, 3, 4, 5, 6, 7, 8, 9, 10

## DIL14
designator IC?, comment Dual In Line / Socket
GateName_1: G$1; SymbolName_1: DIL14; LibraryName: HyTechDevices; DeviceSetName: DIL14; Package: DIL14
footprint DIL14
pins: 1, 2, 3, 4, 5, 6, 7, 8, 9, 10, 11, 12, 13, 14

## DIL14S
designator IC?, comment Dual In Line / Socket
GateName_1: G$1; SymbolName_1: DIL14; DeviceName: S; LibraryName: HyTechDevices; DeviceSetName: DIL14; Package: SOCKET-14
footprint SOCKET-14
pins: 1, 2, 3, 4, 5, 6, 7, 8, 9, 10, 11, 12, 13, 14

## DIL16
designator IC?, comment Dual In Line / Socket
GateName_1: G$1; SymbolName_1: DIL16; LibraryName: HyTechDevices; DeviceSetName: DIL16; Package: DIL16
footprint DIL16
pins: 1, 2, 3, 4, 5, 6, 7, 8, 9, 10, 11, 12, 13, 14, 15, 16

## DIL16S
designator IC?, comment Dual In Line / Socket
GateName_1: G$1; SymbolName_1: DIL16; DeviceName: S; LibraryName: HyTechDevices; DeviceSetName: DIL16; Package: SOCKET-16
footprint SOCKET-16
pins: 1, 2, 3, 4, 5, 6, 7, 8, 9, 10, 11, 12, 13, 14, 15, 16

## DIL18
designator IC?, comment Dual In Line / Socket
GateName_1: G$1; SymbolName_1: DIL18; LibraryName: HyTechDevices; DeviceSetName: DIL18; Package: DIL18
footprint DIL18
pins: 1, 2, 3, 4, 5, 6, 7, 8, 9, 10, 11, 12, 13, 14, 15, 16, 17, 18

## DIL18S
designator IC?, comment Dual In Line / Socket
GateName_1: G$1; SymbolName_1: DIL18; DeviceName: S; LibraryName: HyTechDevices; DeviceSetName: DIL18; Package: SOCKET-18
footprint SOCKET-18
pins: 1, 2, 3, 4, 5, 6, 7, 8, 9, 10, 11, 12, 13, 14, 15, 16, 17, 18

## DIL20
designator IC?, comment Dual In Line / Socket
GateName_1: G$1; SymbolName_1: DIL20; LibraryName: HyTechDevices; DeviceSetName: DIL20; Package: DIL20
footprint DIL20
pins: 1, 2, 3, 4, 5, 6, 7, 8, 9, 10, 11, 12, 13, 14, 15, 16, 17, 18, 19, 20

## DIL20S
designator IC?, comment Dual In Line / Socket
GateName_1: G$1; SymbolName_1: DIL20; DeviceName: S; LibraryName: HyTechDevices; DeviceSetName: DIL20; Package: SOCKET-20
footprint SOCKET-20
pins: 1, 2, 3, 4, 5, 6, 7, 8, 9, 10, 11, 12, 13, 14, 15, 16, 17, 18, 19, 20

## DIL22-3
designator IC?, comment Dual In Line / Socket
GateName_1: G$1; SymbolName_1: DIL22; DeviceName: -3; LibraryName: HyTechDevices; DeviceSetName: DIL22; Package: DIL22-3
footprint DIL22-3
pins: 1, 2, 3, 4, 5, 6, 7, 8, 9, 10, 11, 12, 13, 14, 15, 16, 17, 18, 19, 20, 21, 22

## DIL22-4
designator IC?, comment Dual In Line / Socket
GateName_1: G$1; SymbolName_1: DIL22; DeviceName: -4; LibraryName: HyTechDevices; DeviceSetName: DIL22; Package: DIL22-4
footprint DIL22-4
pins: 1, 2, 3, 4, 5, 6, 7, 8, 9, 10, 11, 12, 13, 14, 15, 16, 17, 18, 19, 20, 21, 22

## DIL22S-3
designator IC?, comment Dual In Line / Socket
GateName_1: G$1; SymbolName_1: DIL22; DeviceName: S-3; LibraryName: HyTechDevices; DeviceSetName: DIL22; Package: SOCKET-22S
footprint SOCKET-22S
pins: 1, 2, 3, 4, 5, 6, 7, 8, 9, 10, 11, 12, 13, 14, 15, 16, 17, 18, 19, 20, 21, 22

## DIL24-3
designator IC?, comment Dual In Line
GateName_1: G$1; SymbolName_1: DIL24; DeviceName: -3; LibraryName: HyTechDevices; DeviceSetName: DIL24; Package: DIL24-3
footprint DIL24-3
pins: 1, 2, 3, 4, 5, 6, 7, 8, 9, 10, 11, 12, 13, 14, 15, 16, 17, 18, 19, 20, 21, 22, 23, 24

## DIL24-4
designator IC?, comment Dual In Line
GateName_1: G$1; SymbolName_1: DIL24; DeviceName: -4; LibraryName: HyTechDevices; DeviceSetName: DIL24; Package: DIL24-4
footprint DIL24-4
pins: 1, 2, 3, 4, 5, 6, 7, 8, 9, 10, 11, 12, 13, 14, 15, 16, 17, 18, 19, 20, 21, 22, 23, 24

## DIL24-6
designator IC?, comment Dual In Line
GateName_1: G$1; SymbolName_1: DIL24; DeviceName: -6; LibraryName: HyTechDevices; DeviceSetName: DIL24; Package: DIL24-6
footprint DIL24-6
pins: 1, 2, 3, 4, 5, 6, 7, 8, 9, 10, 11, 12, 13, 14, 15, 16, 17, 18, 19, 20, 21, 22, 23, 24

## DIL24-9
designator IC?, comment Dual In Line
GateName_1: G$1; SymbolName_1: DIL24; DeviceName: -9; LibraryName: HyTechDevices; DeviceSetName: DIL24; Package: DIL24-9
footprint DIL24-9
pins: 1, 2, 3, 4, 5, 6, 7, 8, 9, 10, 11, 12, 13, 14, 15, 16, 17, 18, 19, 20, 21, 22, 23, 24

## DIODE0805
designator D?, comment DIODE   general purpose rectifier
GateName_1: 1; DeviceName: 0805; SymbolName_1: DIODE; LibraryName: HyTechDevices; DeviceSetName: DIODE; Package: 0805_D
footprint 0805_D
pins: A, C

## DIODE_SOD123FL
designator D?, comment DIODE   general purpose rectifier
GateName_1: 1; DeviceName: _SOD123FL; SymbolName_1: DIODE; LibraryName: HyTechDevices; DeviceSetName: DIODE; Package: SOD-123FL
footprint SOD-123FL
pins: A, C

## DIODE_ZENER
designator D?, comment ZENER DIODE
GateName_1: G$1; SymbolName_1: DIODE_ZENER; LibraryName: HyTechDevices; DeviceSetName: DIODE_ZENER; Package: SOT23
footprint SOT23
pins: 1 A, 3 C

## DIODE_ZENER0805
designator D?, comment ZENER DIODE
GateName_1: G$1; SymbolName_1: DIODE_ZENER; DeviceName: 0805; LibraryName: HyTechDevices; DeviceSetName: DIODE_ZENER; Package: 0805_D
footprint 0805_D
pins: A, C

## DIODE_ZENERDO-41
designator D?, comment ZENER DIODE
GateName_1: G$1; SymbolName_1: DIODE_ZENER; DeviceName: DO-41; LibraryName: HyTechDevices; DeviceSetName: DIODE_ZENER; Package: DO-41
footprint DO-41
pins: A, C

## DIODEDO-41
designator D?, comment DIODE   general purpose rectifier
GateName_1: 1; DeviceName: DO-41; SymbolName_1: DIODE; LibraryName: HyTechDevices; DeviceSetName: DIODE; Package: DO-41
footprint DO-41
pins: A, C

## DMG2305UX
designator ?, comment P-CHANNEL ENHANCEMENT MODE MOSFET  (value not drawn)
GateName_1: G$1; SymbolName_1: P-CHANNEL_MOSFET; DeviceSetName: DMG2305UX; LibraryName: HyTechDevices; Package: SOT23
footprint SOT23
pins: 1 G, 2 S, 3 D

## DMG3406LSOT
designator Q?, comment Generic NPN MOSFET   DMG3406L (SOT-23, 2.8 A 30V)
GateName_1: G$1; SymbolName_1: N-CHANNEL_MOSFET; DeviceName: SOT; LibraryName: HyTechDevices; DeviceSetName: DMG3406L; Package: SOT23
footprint SOT23
pins: 1 G, 2 S, 3 D

## DMMT5401
designator ?
GateName_1: G$1; SymbolName_1: PNP_BJT; GateName_2: G$2; DeviceSetName: DMMT5401; SymbolName_2: PNP_BJT; LibraryName: HyTechDevices; Package: SOT26
footprint SOT26
part A pins: 1 C, 2 B, 6 E
part B pins: 3 B, 4 C, 5 E

## DSUB9
designator X?, comment SUB-D
GateName_1: G$1; SymbolName_1: DSUB9; LibraryName: HyTechDevices; DeviceSetName: DSUB9; Package: DSUB9; OC_FARNELL: unknown; OC_NEWARK: unknown
footprint DSUB9
pins: 1, 2, 3, 4, 5, 6, 7, 8, 9, G1, G2

## DUMMY_PIN_1
designator ?, comment Adds an unused hole to a PCB. If you route an unused connector pin to this dummy, you can solder something to it later.  (value not drawn)
GateName_1: G$1; SymbolName_1: DUMMY_PIN_1; LibraryName: HyTechDevices; DeviceSetName: DUMMY_PIN_1; Package: DUMMY_PIN_1
footprint DUMMY_PIN_1
pins: P1 (io)

## EASY_DRIVER
designator ?, comment Easy Driver - Single channel stepper motor driver  Device Page  (value not drawn)
GateName_1: G$1; SymbolName_1: EASY_DRIVER; LibraryName: HyTechDevices; DeviceSetName: EASY_DRIVER; Package: EASY_DRIVER
footprint EASY_DRIVER
pins: 5V+ (io), A+ (io), A- (io), B+ (io), B- (io), DIR (io), EN (io), GND (io), GND1 (io), GND2 (io), M+ (io), MS1 (io), MS2 (io), PFD (io), RST (io), SLP (io), STEP (io)

## ENC28J60
designator ?, comment ENC28J60 Stand-Alone Ethernet Controller with SPI Interface   Datasheet
GateName_1: G$1; SymbolName_1: ENC28J60; LibraryName: HyTechDevices; DeviceSetName: ENC28J60; Package: SOIC-28W
footprint SOIC-28W
pins: 1 VCAP (io), 2 VSS (io), 3 CLKOUT (io), 4 ~INT (io), 5 NC (io), 6 SO (io), 7 SI (io), 8 SCK (io), 9 ~CS (io), 10 ~RST (io), 11 VSSRX (io), 12 TPIN- (io), 13 TPIN+ (io), 14 RBIAS (io), 15 VDDTX (io), 16 TPOUT- (io), 17 TPOUT+ (io), 18 VSSTX (io), 19 VDDRX (io), 20 VDDPLL (io), 21 VSSPLL (io), 22 VSSOSC (io), 23 OSC1 (io), 24 OSC2 (io), 25 VDDOSC (io), 26 LEDB (io), 27 LEDA (io), 28 VDD (io)

## ESP8266_ESP-07
designator ?, comment ESP8266 ESP-07 WIFI MODULE Protocol: 802.11 b/g/n  Frequency Range: 2.4-2.5 GHz  Security: WPA/WPA2 Compatible  Standby Power: 1mW  Transmission Power: +20 dBm  FCC, CE, TELEC, SRRC, Wifi Alliance Certified  Integrated TCP/IP Control Stack
GateName_1: G$1; SymbolName_1: ESP8266_ESP-07; LibraryName: HyTechDevices; DeviceSetName: ESP8266_ESP-07; Package: ESP8266_ESP-07
footprint ESP8266_ESP-07
pins: P$1 RST, P$2 ADC, P$3 EN/CH_PD, P$4 GPIO16, P$5 GPIO14, P$6 GPIO12, P$7 GPIO13, P$8 VCC, P$9 GND, P$10 GPIO15, P$11 GPIO2, P$12 GPIO0, P$13 GPIO5, P$14 GPIO4, P$15 RXD, P$16 TXD

## ESP8266_ESP-07_SMD
designator ?, comment ESP8266 ESP-07 WIFI MODULE Protocol: 802.11 b/g/n  Frequency Range: 2.4-2.5 GHz  Security: WPA/WPA2 Compatible  Standby Power: 1mW  Transmission Power: +20 dBm  FCC, CE, TELEC, SRRC, Wifi Alliance Certified  Integrated TCP/IP Control Stack
GateName_1: G$1; SymbolName_1: ESP8266_ESP-07; DeviceName: _SMD; LibraryName: HyTechDevices; DeviceSetName: ESP8266_ESP-07; Package: ESP8266_ESP-07_SMD
footprint ESP8266_ESP-07_SMD
pins: P$1 RST, P$2 ADC, P$3 EN/CH_PD, P$4 GPIO16, P$5 GPIO14, P$6 GPIO12, P$7 GPIO13, P$8 VCC, P$9 GND, P$10 GPIO15, P$11 GPIO2, P$12 GPIO0, P$13 GPIO5, P$14 GPIO4, P$15 RXD, P$16 TXD

## FFC-30P-0.5MM
designator ?
GateName_1: G$1; SymbolName_1: FFC-30P-0.5MM; LibraryName: HyTechDevices; DeviceSetName: FFC-30P-0.5MM; Package: FFC-30P-0.5MM
footprint FFC-30P-0.5MM
pins: 1 (io), 2 (io), 3 (io), 4 (io), 5 (io), 6 (io), 7 (io), 8 (io), 9 (io), 10 (io), 11 (io), 12 (io), 13 (io), 14 (io), 15 (io), 16 (io), 17 (io), 18 (io), 19 (io), 20 (io), 21 (io), 22 (io), 23 (io), 24 (io), 25 (io), 26 (io), 27 (io), 28 (io), 29 (io), 30 (io), PAD@0 (io), PAD@1 (io)

## FUSE
designator F?, comment Fuse/Fuseclips  Keystone Electronics 3568 Fuse  Mouser Part Datasheet  Bussman/Eaton Midget Fuse Clip  1A3400  Schurter 0751.0110 Brass Fuse Clip  Datasheet  Bel Fuse 0ZCF Series Surface Mount PTC (resettable) Fuse  Datasheet  Littelfuse 1812L Series Surface Mount PTC (resettable) Fuse  Datasheet
GateName_1: G$1; SymbolName_1: FUSE; LibraryName: HyTechDevices; DeviceSetName: FUSE; Package: AXIAL-0.8
footprint AXIAL-0.8
pins: P$1 1 (io), P$2 2 (io)

## FUSE_0ZCF
designator F?, comment Fuse/Fuseclips  Keystone Electronics 3568 Fuse  Mouser Part Datasheet  Bussman/Eaton Midget Fuse Clip  1A3400  Schurter 0751.0110 Brass Fuse Clip  Datasheet  Bel Fuse 0ZCF Series Surface Mount PTC (resettable) Fuse  Datasheet  Littelfuse 1812L Series Surface Mount PTC (resettable) Fuse  Datasheet
GateName_1: G$1; DeviceName: _0ZCF; SymbolName_1: FUSE; LibraryName: HyTechDevices; DeviceSetName: FUSE; Package: FUSE_0ZCF
footprint FUSE_0ZCF
pins: P$1 1 (io), P$2 2 (io)

## FUSE_5X20MM
designator F?, comment Fuse/Fuseclips  Keystone Electronics 3568 Fuse  Mouser Part Datasheet  Bussman/Eaton Midget Fuse Clip  1A3400  Schurter 0751.0110 Brass Fuse Clip  Datasheet  Bel Fuse 0ZCF Series Surface Mount PTC (resettable) Fuse  Datasheet  Littelfuse 1812L Series Surface Mount PTC (resettable) Fuse  Datasheet
GateName_1: G$1; DeviceName: _5X20MM; SymbolName_1: FUSE; LibraryName: HyTechDevices; DeviceSetName: FUSE; Package: 0751.0110
footprint 0751.0110
pins: L1 L2 1 (io), R1 R2 2 (io)

## FUSE_1812L
designator F?, comment Fuse/Fuseclips  Keystone Electronics 3568 Fuse  Mouser Part Datasheet  Bussman/Eaton Midget Fuse Clip  1A3400  Schurter 0751.0110 Brass Fuse Clip  Datasheet  Bel Fuse 0ZCF Series Surface Mount PTC (resettable) Fuse  Datasheet  Littelfuse 1812L Series Surface Mount PTC (resettable) Fuse  Datasheet
GateName_1: G$1; DeviceName: _1812L; SymbolName_1: FUSE; LibraryName: HyTechDevices; DeviceSetName: FUSE; Package: FUSE_1812L
footprint FUSE_1812L
pins: P$1 1 (io), P$2 2 (io)

## FUSE_C1Q1206
designator F?, comment Fuse/Fuseclips  Keystone Electronics 3568 Fuse  Mouser Part Datasheet  Bussman/Eaton Midget Fuse Clip  1A3400  Schurter 0751.0110 Brass Fuse Clip  Datasheet  Bel Fuse 0ZCF Series Surface Mount PTC (resettable) Fuse  Datasheet  Littelfuse 1812L Series Surface Mount PTC (resettable) Fuse  Datasheet
GateName_1: G$1; DeviceName: _C1Q1206; SymbolName_1: FUSE; LibraryName: HyTechDevices; DeviceSetName: FUSE; Package: 1206
footprint 1206
pins: 1 (io), 2 (io)

## FUSE_MIDGET
designator F?, comment Fuse/Fuseclips  Keystone Electronics 3568 Fuse  Mouser Part Datasheet  Bussman/Eaton Midget Fuse Clip  1A3400  Schurter 0751.0110 Brass Fuse Clip  Datasheet  Bel Fuse 0ZCF Series Surface Mount PTC (resettable) Fuse  Datasheet  Littelfuse 1812L Series Surface Mount PTC (resettable) Fuse  Datasheet
GateName_1: G$1; DeviceName: _MIDGET; SymbolName_1: FUSE; LibraryName: HyTechDevices; DeviceSetName: FUSE; Package: 1A3400_38.1MM
footprint 1A3400_38.1MM
pins: N3 N4 1 (io), P1 P2 2 (io)

## FUSE_MINIBLADE
designator F?, comment Fuse/Fuseclips  Keystone Electronics 3568 Fuse  Mouser Part Datasheet  Bussman/Eaton Midget Fuse Clip  1A3400  Schurter 0751.0110 Brass Fuse Clip  Datasheet  Bel Fuse 0ZCF Series Surface Mount PTC (resettable) Fuse  Datasheet  Littelfuse 1812L Series Surface Mount PTC (resettable) Fuse  Datasheet
GateName_1: G$1; DeviceName: _MINIBLADE; SymbolName_1: FUSE; LibraryName: HyTechDevices; DeviceSetName: FUSE; Package: MINI-BLADE_FUSE_HOLDER
footprint MINI-BLADE_FUSE_HOLDER
pins: L1 L2 1 (io), R1 R2 2 (io)

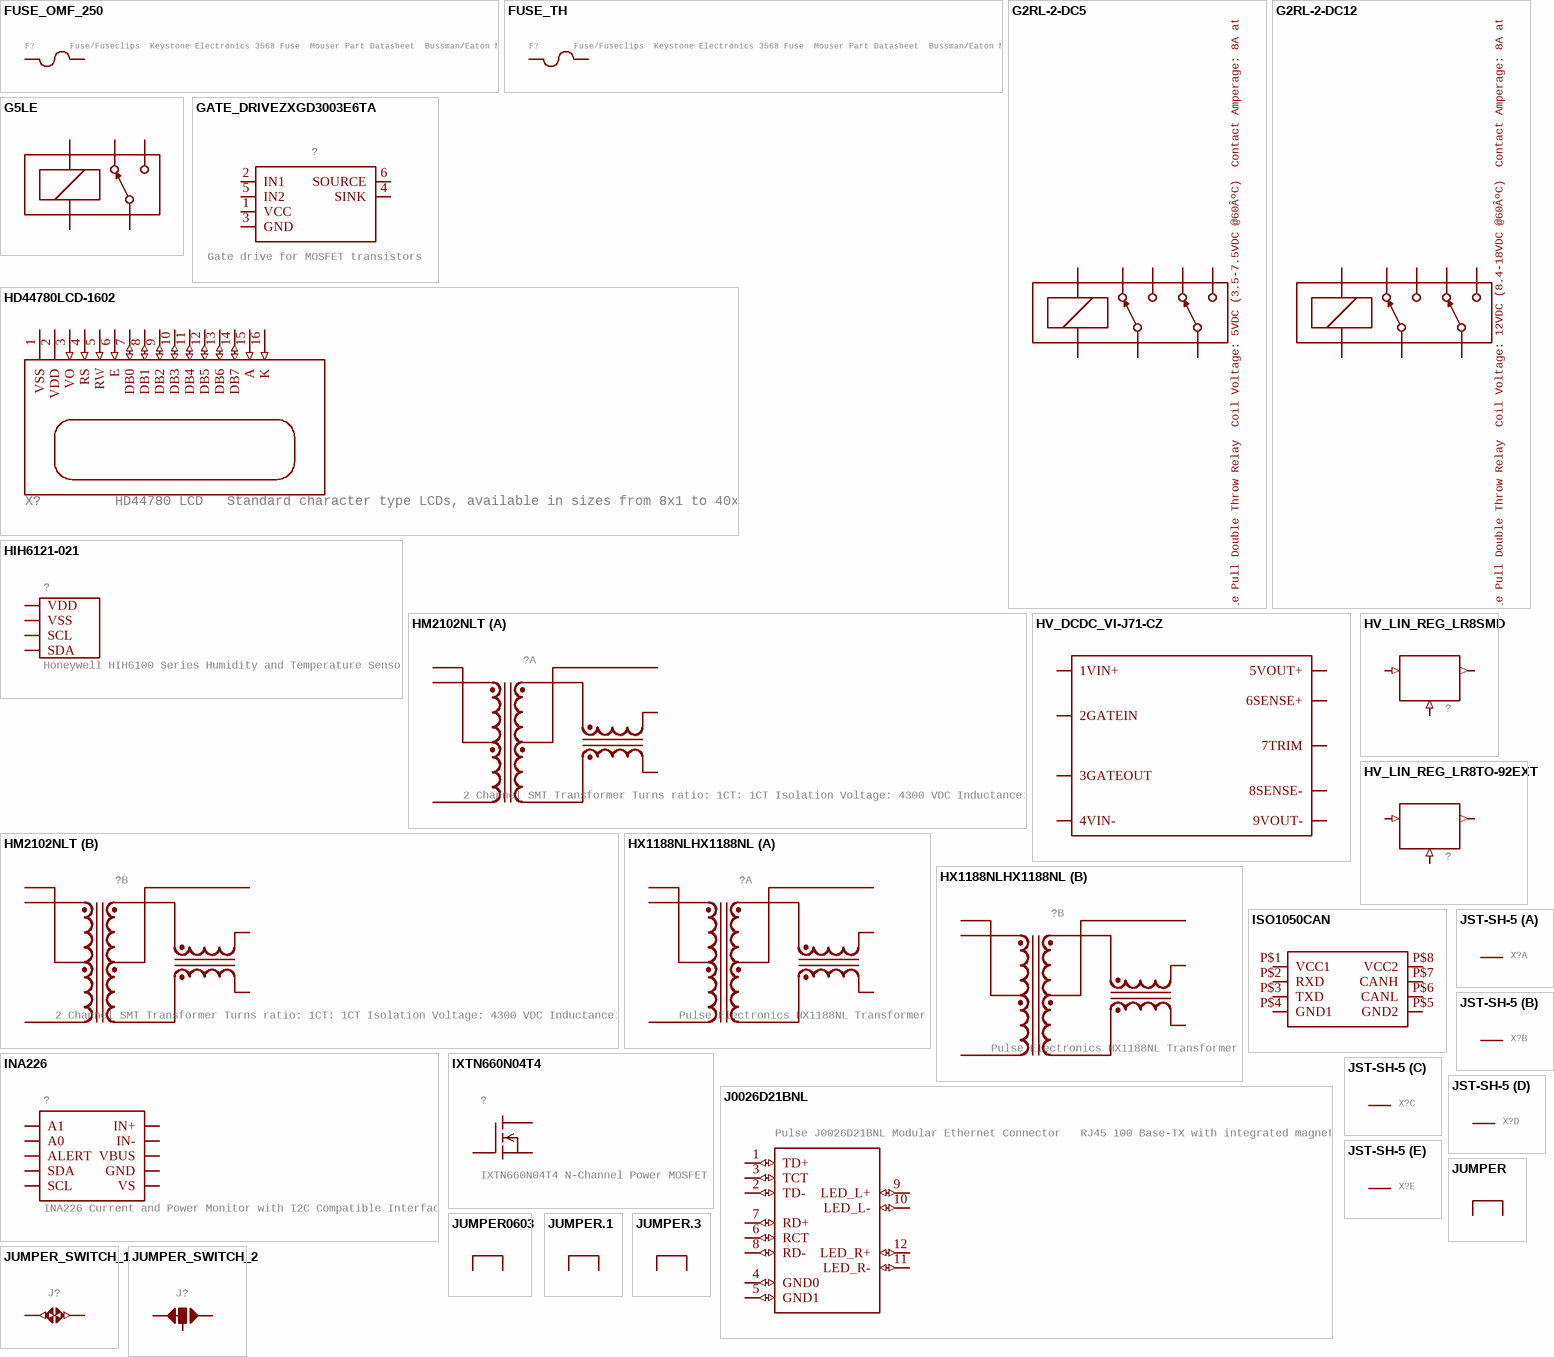
[diagram p15: symbols FUSE_OMF_250 to JUMPER_SWITCH_2]

## FUSE_OMF_250
designator F?, comment Fuse/Fuseclips  Keystone Electronics 3568 Fuse  Mouser Part Datasheet  Bussman/Eaton Midget Fuse Clip  1A3400  Schurter 0751.0110 Brass Fuse Clip  Datasheet  Bel Fuse 0ZCF Series Surface Mount PTC (resettable) Fuse  Datasheet  Littelfuse 1812L Series Surface Mount PTC (resettable) Fuse  Datasheet
GateName_1: G$1; DeviceName: _OMF_250; SymbolName_1: FUSE; LibraryName: HyTechDevices; DeviceSetName: FUSE; Package: OMF_250
footprint OMF_250
pins: P$1 1 (io), P$2 2 (io)

## FUSE_TH
designator F?, comment Fuse/Fuseclips  Keystone Electronics 3568 Fuse  Mouser Part Datasheet  Bussman/Eaton Midget Fuse Clip  1A3400  Schurter 0751.0110 Brass Fuse Clip  Datasheet  Bel Fuse 0ZCF Series Surface Mount PTC (resettable) Fuse  Datasheet  Littelfuse 1812L Series Surface Mount PTC (resettable) Fuse  Datasheet
GateName_1: G$1; DeviceName: _TH; SymbolName_1: FUSE; LibraryName: HyTechDevices; DeviceSetName: FUSE; Package: AXIAL-0.4
footprint AXIAL-0.4
pins: P$1 1 (io), P$2 2 (io)

## G2RL-2-DC5
designator ?, comment Omron G2RL-2 Double Pull Double Throw Relay  Coil Voltage: 5VDC (3.5-7.5VDC @60ÂºC)  Contact Amperage: 8A at 30VDC  Datasheet
GateName_1: G$1; SymbolName_1: RELAY_DPDT; DeviceSetName: G2RL-2-DC5; LibraryName: HyTechDevices; Package: RELAY_DPDT
footprint RELAY_DPDT
pins: 2 (io), 3 (io), 4 (io), 5 (io), 6 (io), 7 (io), COIL+ (io), COIL- (io)

## G2RL-2-DC12
designator ?, comment Omron G2RL-2 Double Pull Double Throw Relay  Coil Voltage: 12VDC (8.4-18VDC @60ÂºC)  Contact Amperage: 8A at 30VDC  Datasheet
GateName_1: G$1; SymbolName_1: RELAY_DPDT; DeviceSetName: G2RL-2-DC12; LibraryName: HyTechDevices; Package: RELAY_DPDT
footprint RELAY_DPDT
pins: 2 (io), 3 (io), 4 (io), 5 (io), 6 (io), 7 (io), COIL+ (io), COIL- (io)

## G5LE
designator ?, comment Omron G5LE SPST Relay  5 VDC, 12VDC, 24VDC models  Coil voltage: 75% - 170% of nominal voltage  Datasheet  (value not drawn)
GateName_1: G$1; SymbolName_1: ZF112; LibraryName: HyTechDevices; DeviceSetName: G5LE; Package: ZF112
footprint ZF112
pins: 1 COIL+ (io), 2 COIL- (io), O (io), P (io), S (io)

## GATE_DRIVEZXGD3003E6TA
designator ?, comment Gate drive for MOSFET transistors
GateName_1: G$1; SymbolName_1: GATE_DRIVE; DeviceName: ZXGD3003E6TA; LibraryName: HyTechDevices; DeviceSetName: GATE_DRIVE; Package: SOT23-6
footprint SOT23-6
pins: 1 VCC (io), 2 IN1 (io), 3 GND (io), 4 SINK (io), 5 IN2 (io), 6 SOURCE (io)

## HD44780LCD-1602
designator X?, comment HD44780 LCD   Standard character type LCDs, available in sizes from 8x1 to 40x4!
GateName_1: G$1; SymbolName_1: CLCD; DeviceName: -1602; LibraryName: HyTechDevices; DeviceSetName: HD44780LCD; Package: LCD1602
footprint LCD1602
pins: 1 VSS (power), 2 VDD (power), 3 VO (in), 4 RS (in), 5 RW (in), 6 E (in), 7 DB0 (io), 8 DB1 (io), 9 DB2 (io), 10 DB3 (io), 11 DB4 (io), 12 DB5 (io), 13 DB6 (io), 14 DB7 (io), 15 A (in), 16 K (in)

## HIH6121-021
designator ?, comment Honeywell HIH6100 Series Humidity and Temperature Sensor
GateName_1: G$1; SymbolName_1: HIH6121-021; LibraryName: HyTechDevices; DeviceSetName: HIH6121-021; Package: HIH6121-021
footprint HIH6121-021
pins: SCL, SDA, VDD, VSS

## HM2102NLT
designator ?, comment 2 Channel SMT Transformer Turns ratio: 1CT: 1CT Isolation Voltage: 4300 VDC Inductance: 150 uH Leakage Inductance: 0.50 uH max    DataSheet
GateName_1: G$1; GateName_2: G$2; DeviceSetName: HM2102NLT; SymbolName_1: TRANSFORMER; SymbolName_2: TRANSFORMER; LibraryName: HyTechDevices; Package: HM2102NLT
footprint HM2102NLT
part A pins: P$1 MX+, P$2 MCT, P$3 MX-, P$10 TD-, P$11 TCT, P$12 TD+
part B pins: P$4 MX+, P$5 MCT, P$6 MX-, P$7 TD-, P$8 TCT, P$9 TD+

## HV_DCDC_VI-J71-CZ
designator ?, comment Vicor-Corporation VI-J71-CZ   Product Page Datasheet  (value not drawn)
GateName_1: G$1; SymbolName_1: HV_DCDC_VI-J71-CZ; LibraryName: HyTechDevices; DeviceSetName: HV_DCDC_VI-J71-CZ; Package: HV_DCDC_VI-J71-CZ
footprint HV_DCDC_VI-J71-CZ
pins: 1VIN+ (io), 2GATEIN (io), 3GATEOUT (io), 4VIN- (io), 5VOUT+ (io), 6SENSE+ (io), 7TRIM (io), 8SENSE- (io), 9VOUT- (io)

## HV_LIN_REG_LR8SMD
designator ?
GateName_1: G$1; SymbolName_1: VOLTAGE_REGULATOR_ADJ; DeviceName: SMD; DeviceSetName: HV_LIN_REG_LR8; LibraryName: HyTechDevices; Package: TO-252
footprint TO-252
pins: 1 IN (in), 2(TAB) OUT (out), 3 ADJ (in)

## HV_LIN_REG_LR8TO-92EXT
designator ?
GateName_1: G$1; SymbolName_1: VOLTAGE_REGULATOR_ADJ; DeviceName: TO-92EXT; DeviceSetName: HV_LIN_REG_LR8; LibraryName: HyTechDevices; Package: HV_LIN_REG14MM
footprint HV_LIN_REG14MM
pins: ADJ (in), VIN IN (in), VOUT OUT (out)

## HX1188NLHX1188NL
designator ?, comment Pulse Electronics HX1188NL Transformer
GateName_1: G$1; GateName_2: G$2; SymbolName_1: TRANSFORMER; SymbolName_2: TRANSFORMER; DeviceName: HX1188NL; LibraryName: HyTechDevices; DeviceSetName: HX1188NL; Package: HX1188NL
footprint HX1188NL
part A pins: 1 MX+, 2 MCT, 3 MX-, 14 TD-, 15 TCT, 16 TD+
part B pins: 6 MX+, 7 MCT, 8 MX-, 9 TD-, 10 TCT, 11 TD+

## INA226
designator ?, comment INA226 Current and Power Monitor with I2C Compatible Interface
GateName_1: G$1; SymbolName_1: INA226; LibraryName: HyTechDevices; DeviceSetName: INA226; Package: VSSOP-10
footprint VSSOP-10
pins: 1 A1, 2 A0, 3 ALERT, 4 SDA, 5 SCL, 6 VS, 7 GND, 8 VBUS, 9 IN-, 10 IN+

## ISO1050CAN
designator ?
GateName_1: G$1; SymbolName_1: ISO1050; DeviceSetName: ISO1050CAN; LibraryName: HyTechDevices; Package: DUB8
footprint DUB8
pins: P$1 VCC1 (io), P$2 RXD (io), P$3 TXD (io), P$4 GND1 (io), P$5 GND2 (io), P$6 CANL (io), P$7 CANH (io), P$8 VCC2 (io)

## IXTN660N04T4
designator ?, comment IXTN660N04T4 N-Channel Power MOSFET
GateName_1: 1; SymbolName_1: N-CHANNEL_MOSFET; LibraryName: HyTechDevices; DeviceSetName: IXTN660N04T4; Package: SOT-227B
footprint SOT-227B
pins: P$1 D, P$2 P$3 S, P$4 G

## J0026D21BNL
designator ?, comment Pulse J0026D21BNL Modular Ethernet Connector   RJ45 100 Base-TX with integrated magnetics
GateName_1: G$1; SymbolName_1: J0026D21BNL; LibraryName: HyTechDevices; DeviceSetName: J0026D21BNL; Package: J0026D21BNL
footprint J0026D21BNL
pins: 1 TD+ (io), 2 TD- (io), 3 TCT (io), 4 GND0 (io), 5 GND1 (io), 6 RCT (io), 7 RD+ (io), 8 RD- (io), 9 LED_L+ (io), 10 LED_L- (io), 11 LED_R- (io), 12 LED_R+ (io)

## JST-SH-5
designator X?, comment JST-SH Connector - 5 pin   Datasheet  (value not drawn)
GateName_1: -1; SymbolName_1: MV; GateName_2: -2; SymbolName_2: M; GateName_3: -3; GateName_4: -4; GateName_5: -5; DeviceSetName: JST-SH-5; SymbolName_3: M; SymbolName_4: M; SymbolName_5: M; LibraryName: HyTechDevices; Package: JST-SH-5
footprint JST-SH-5
part A pins: P$1 S
part B pins: P$2 S
part C pins: P$3 S
part D pins: P$4 S
part E pins: P$5 S

## JUMPER
designator J?, comment Jumper for changing operation of a device  (value not drawn)
GateName_1: G$1; SymbolName_1: JUMPER; LibraryName: HyTechDevices; DeviceSetName: JUMPER; Package: 0805
footprint 0805
pins: 1 P$1 (io), 2 P$2 (io)

## JUMPER0603
designator J?, comment Jumper for changing operation of a device  (value not drawn)
GateName_1: G$1; DeviceName: 0603; SymbolName_1: JUMPER; LibraryName: HyTechDevices; DeviceSetName: JUMPER; Package: 0603-RES
footprint 0603-RES
pins: 1 P$1 (io), 2 P$2 (io)

## JUMPER.1
designator J?, comment Jumper for changing operation of a device  (value not drawn)
GateName_1: G$1; DeviceName: .1; SymbolName_1: JUMPER; LibraryName: HyTechDevices; DeviceSetName: JUMPER; Package: 1X02
footprint 1X02
pins: 1 P$1 (io), 2 P$2 (io)

## JUMPER.3
designator J?, comment Jumper for changing operation of a device  (value not drawn)
GateName_1: G$1; DeviceName: .3; SymbolName_1: JUMPER; LibraryName: HyTechDevices; DeviceSetName: JUMPER; Package: AXIAL-0.3
footprint AXIAL-0.3
pins: P$1 (io), P$2 (io)

## JUMPER_SWITCH_1
designator J?, comment Jumper Switch: Switch a circuit by cutting trace or soldering pads back together.  (value not drawn)
GateName_1: G$1; SymbolName_1: JUMPER_SWITCH_1; LibraryName: HyTechDevices; DeviceSetName: JUMPER_SWITCH_1; Package: JUMPER_SWITCH_1
footprint JUMPER_SWITCH_1
pins: P$1 (io), P$2 (io)

## JUMPER_SWITCH_2
designator J?, comment Jumper Switch: Switch between 2 circuits by cutting default trace and soldering pads together.  (value not drawn)
GateName_1: G$1; SymbolName_1: JUMPER_SWITCH_2; LibraryName: HyTechDevices; DeviceSetName: JUMPER_SWITCH_2; Package: JUMPER_SWITCH_2
footprint JUMPER_SWITCH_2
pins: P$1 (io), P$2 (io), P$3 (io)

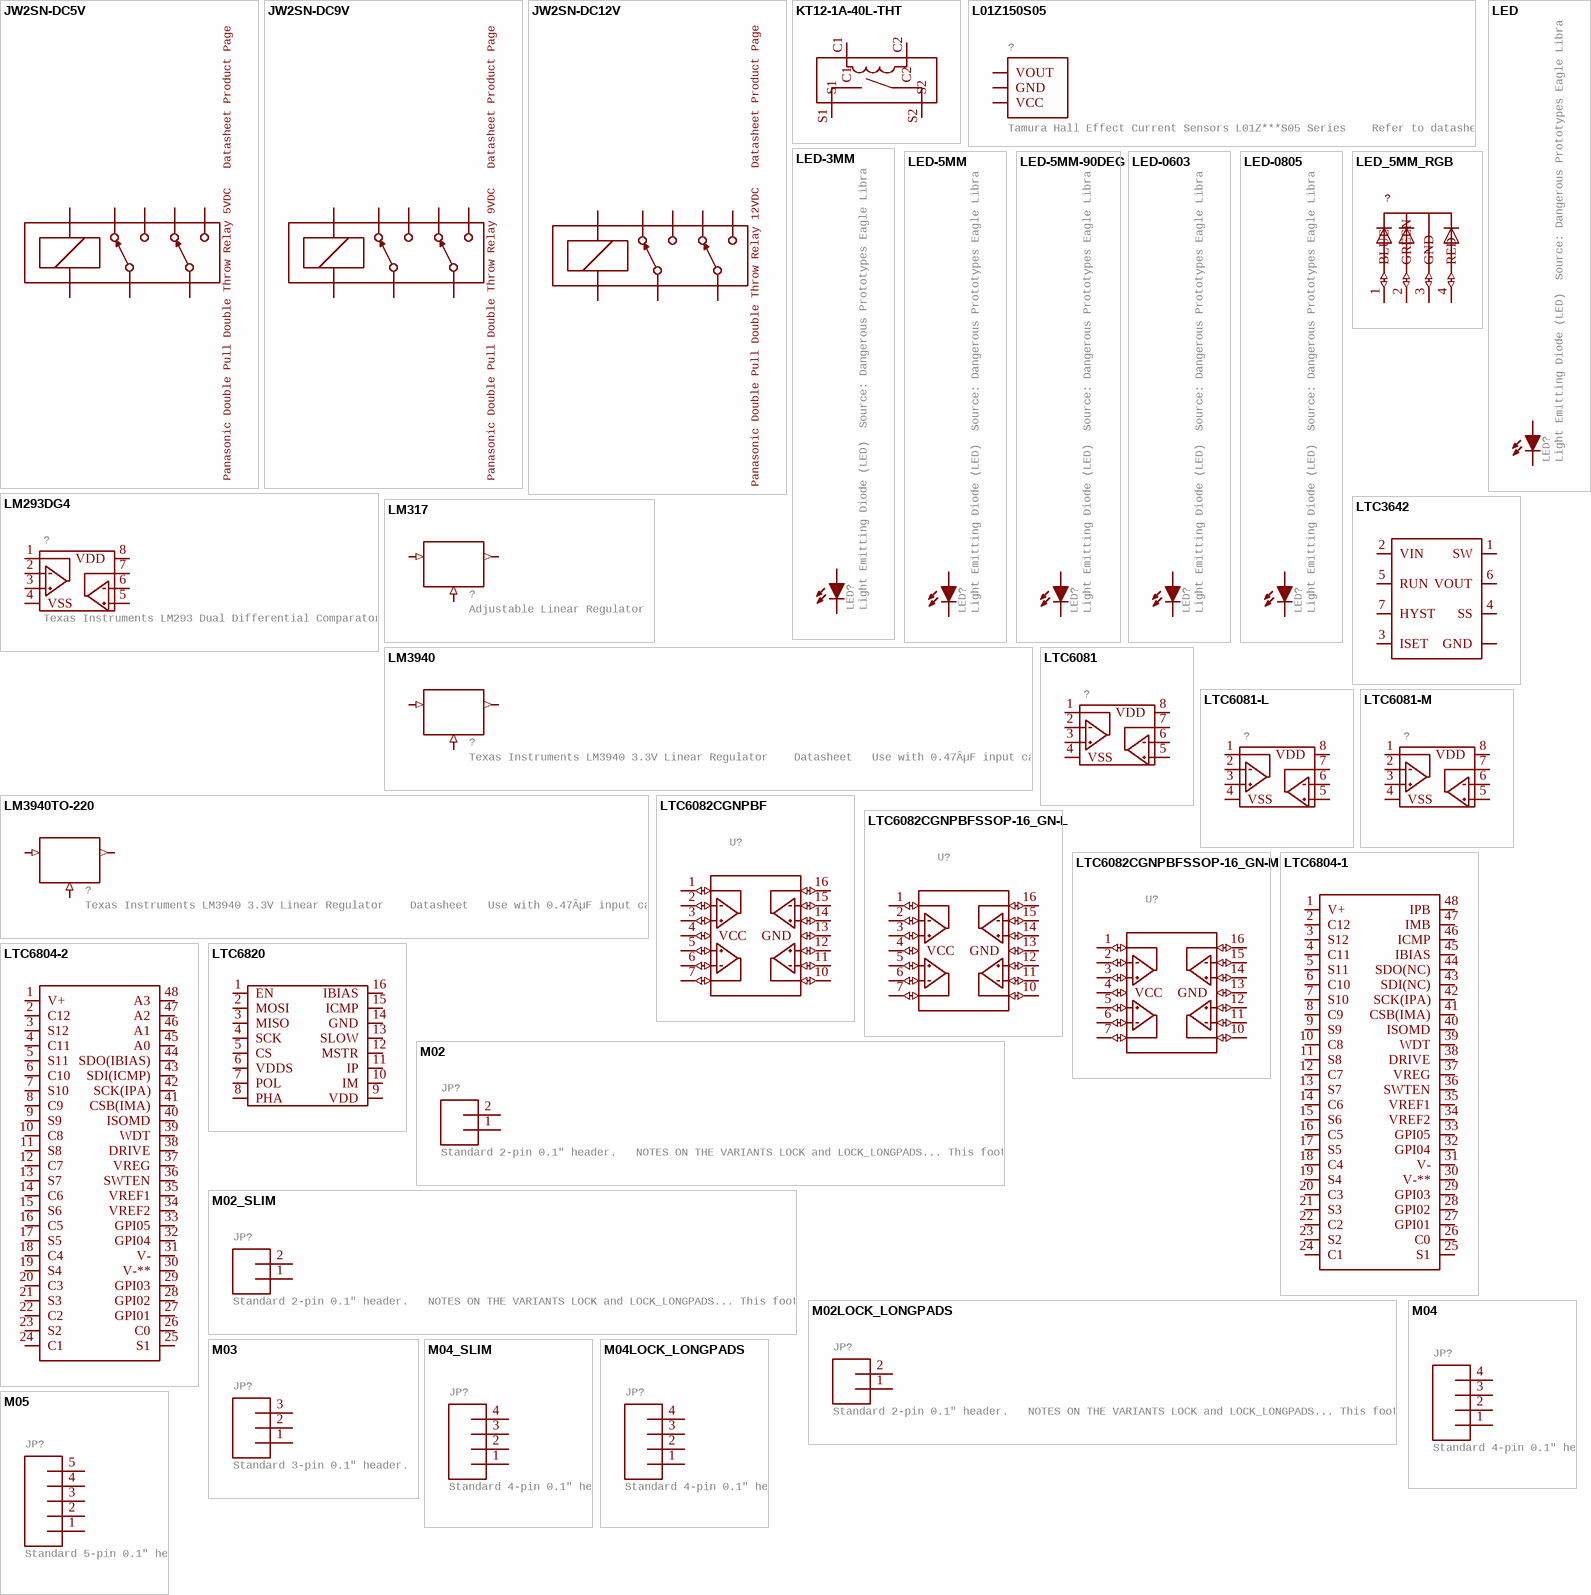
[diagram p16: symbols JW2SN-DC5V to M05]

## JW2SN-DC5V
designator ?, comment Panasonic Double Pull Double Throw Relay 5VDC   Datasheet Product Page
GateName_1: G$1; SymbolName_1: RELAY_DPDT; DeviceSetName: JW2SN-DC5V; LibraryName: HyTechDevices; Package: RELAY_DPDT
footprint RELAY_DPDT
pins: 2 (io), 3 (io), 4 (io), 5 (io), 6 (io), 7 (io), COIL+ (io), COIL- (io)

## JW2SN-DC9V
designator ?, comment Panasonic Double Pull Double Throw Relay 9VDC   Datasheet Product Page
GateName_1: G$1; SymbolName_1: RELAY_DPDT; DeviceSetName: JW2SN-DC9V; LibraryName: HyTechDevices; Package: RELAY_DPDT
footprint RELAY_DPDT
pins: 2 (io), 3 (io), 4 (io), 5 (io), 6 (io), 7 (io), COIL+ (io), COIL- (io)

## JW2SN-DC12V
designator ?, comment Panasonic Double Pull Double Throw Relay 12VDC   Datasheet Product Page
GateName_1: G$1; SymbolName_1: RELAY_DPDT; DeviceSetName: JW2SN-DC12V; LibraryName: HyTechDevices; Package: RELAY_DPDT
footprint RELAY_DPDT
pins: 2 (io), 3 (io), 4 (io), 5 (io), 6 (io), 7 (io), COIL+ (io), COIL- (io)

## KT12-1A-40L-THT
designator ?
GateName_1: G$1; SymbolName_1: KT12-1A-40L-THT; LibraryName: HyTechDevices; DeviceSetName: KT12-1A-40L-THT; Package: KT12-1A-40L-THT
footprint KT12-1A-40L-THT
pins: C1 (io), C2 (io), S1 (io), S2 (io)

## L01Z150S05
designator ?, comment Tamura Hall Effect Current Sensors L01Z***S05 Series    Refer to datasheet
GateName_1: G$1; SymbolName_1: L01Z150S05; LibraryName: HyTechDevices; DeviceSetName: L01Z150S05; Package: L01Z150S05
footprint L01Z150S05
pins: 1 VOUT (io), 2 GND (io), 3 VCC (io)

## LED
designator LED?, comment Light Emitting Diode (LED)  Source: Dangerous Prototypes Eagle Library
GateName_1: LED; SymbolName_1: LED; LibraryName: HyTechDevices; DeviceSetName: LED; Package: CREE_XP-E2
footprint CREE_XP-E2
pins: P$1 A, P$2 C

## LED-3MM
designator LED?, comment Light Emitting Diode (LED)  Source: Dangerous Prototypes Eagle Library
DeviceName: -3MM; GateName_1: LED; SymbolName_1: LED; LibraryName: HyTechDevices; DeviceSetName: LED; Package: LED-3MM
footprint LED-3MM
pins: A, K C

## LED-5MM
designator LED?, comment Light Emitting Diode (LED)  Source: Dangerous Prototypes Eagle Library
DeviceName: -5MM; GateName_1: LED; SymbolName_1: LED; LibraryName: HyTechDevices; DeviceSetName: LED; Package: LED-5MM
footprint LED-5MM
pins: A, K C

## LED-5MM-90DEG
designator LED?, comment Light Emitting Diode (LED)  Source: Dangerous Prototypes Eagle Library
DeviceName: -5MM-90DEG; GateName_1: LED; SymbolName_1: LED; LibraryName: HyTechDevices; DeviceSetName: LED; Package: LED-5MM-90DEG
footprint LED-5MM-90DEG
pins: A, K C